# Altium schematic symbol library Schlib_Linear_Technology.SchLib: 87 symbols
Pins are listed as number, name and electrical type; pins without a type are passive.

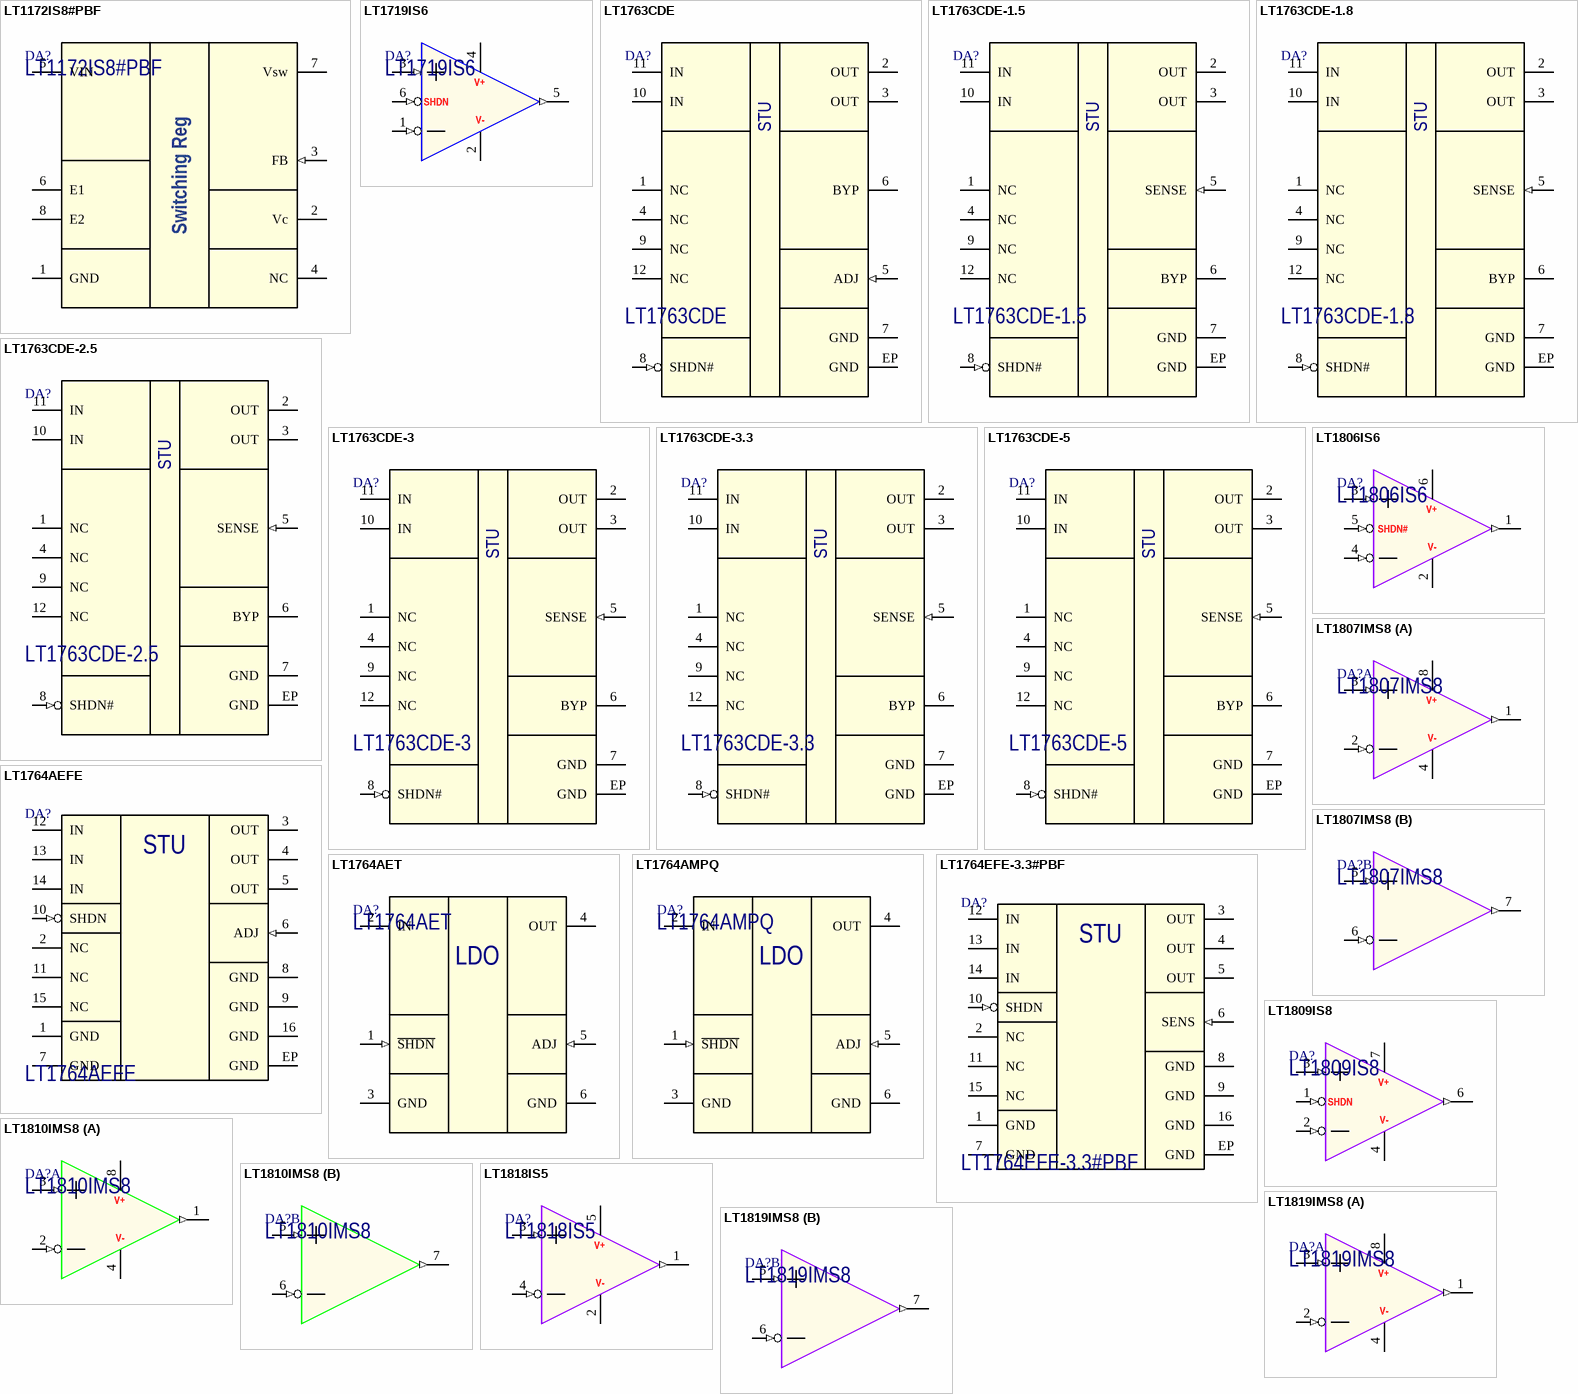
[diagram p0: symbols LT1172IS8#PBF to LT1819IMS8]

## LT1172IS8#PBF
designator DA?
100kHz, 1.25A High Efficiency Switching Regulators; Manufacturer: Analog Devices; Package: SO-8; Part Number: LT1172IS8#PBF
footprint SOIC-8 (SOIC-8 package)
pins: 1 GND (power), 2 Vc, 3 FB (in), 4 NC (hiz), 5 VIN (power), 6 E1 (power), 7 Vsw (power), 8 E2 (power)
text: Switching Reg

## LT1719IS6
designator DA?
Single Comparator with Rail-to-Rail Output; Manufacturer: Linear Technology/Analog Devices; Package: TSOT-23-6; Part Number: LT1719IS6
footprint TSOT-23-6
pins: 1 IN- (in), 2 V- (power), 3 IN+ (in), 4 V+ (power), 5 OUT (out), 6 SHDN (in)

## LT1763CDE
designator DA?
Adjustable LDO Regulator, 500mA; Manufacturer: Linear Technology/Analog Devices; Part Number: LT1763CDE; Package: DFN-12
footprint DFN-12(3x4) (DFN-12 package with 0.5mm pitch 3x4mm)
pins: 1 NC (hiz), 2 OUT (power), 3 OUT (power), 4 NC (hiz), 5 ADJ (in), 6 BYP, 7 GND (power), 8 SHDN# (in), 9 NC (hiz), 10 IN (power), 11 IN (power), 12 NC (hiz), EP GND (power)
text: STU

## LT1763CDE-1.5
designator DA?
LDO Regulator 1.5V, 500mA; Manufacturer: Linear Technology/Analog Devices; Part Number: LT1763CDE-1.5; Package: DFN-12
footprint DFN-12(3x4) (DFN-12 package with 0.5mm pitch 3x4mm)
pins: 1 NC (hiz), 2 OUT (power), 3 OUT (power), 4 NC (hiz), 5 SENSE (in), 6 BYP, 7 GND (power), 8 SHDN# (in), 9 NC (hiz), 10 IN (power), 11 IN (power), 12 NC (hiz), EP GND (power)
text: STU

## LT1763CDE-1.8
designator DA?
LDO Regulator 1.8V, 500mA; Manufacturer: Linear Technology/Analog Devices; Part Number: LT1763CDE-1.8; Package: DFN-12
footprint DFN-12(3x4) (DFN-12 package with 0.5mm pitch 3x4mm)
pins: 1 NC (hiz), 2 OUT (power), 3 OUT (power), 4 NC (hiz), 5 SENSE (in), 6 BYP, 7 GND (power), 8 SHDN# (in), 9 NC (hiz), 10 IN (power), 11 IN (power), 12 NC (hiz), EP GND (power)
text: STU

## LT1763CDE-2.5
designator DA?
LDO Regulator 2.5V, 500mA; Manufacturer: Linear Technology/Analog Devices; Part Number: LT1763CDE-2.5; Package: DFN-12
footprint DFN-12(3x4) (DFN-12 package with 0.5mm pitch 3x4mm)
pins: 1 NC (hiz), 2 OUT (power), 3 OUT (power), 4 NC (hiz), 5 SENSE (in), 6 BYP, 7 GND (power), 8 SHDN# (in), 9 NC (hiz), 10 IN (power), 11 IN (power), 12 NC (hiz), EP GND (power)
text: STU

## LT1763CDE-3
designator DA?
LDO Regulator 3V, 500mA; Manufacturer: Linear Technology/Analog Devices; Part Number: LT1763CDE-3; Package: DFN-12
footprint DFN-12(3x4) (DFN-12 package with 0.5mm pitch 3x4mm)
pins: 1 NC (hiz), 2 OUT (power), 3 OUT (power), 4 NC (hiz), 5 SENSE (in), 6 BYP, 7 GND (power), 8 SHDN# (in), 9 NC (hiz), 10 IN (power), 11 IN (power), 12 NC (hiz), EP GND (power)
text: STU

## LT1763CDE-3.3
designator DA?
LDO Regulator 3.3V, 500mA; Manufacturer: Linear Technology/Analog Devices; Part Number: LT1763CDE-3.3; Package: DFN-12
footprint DFN-12(3x4) (DFN-12 package with 0.5mm pitch 3x4mm)
pins: 1 NC (hiz), 2 OUT (power), 3 OUT (power), 4 NC (hiz), 5 SENSE (in), 6 BYP, 7 GND (power), 8 SHDN# (in), 9 NC (hiz), 10 IN (power), 11 IN (power), 12 NC (hiz), EP GND (power)
text: STU

## LT1763CDE-5
designator DA?
LDO Regulator 5V, 500mA; Manufacturer: Linear Technology/Analog Devices; Part Number: LT1763CDE-5; Package: DFN-12
footprint DFN-12(3x4) (DFN-12 package with 0.5mm pitch 3x4mm)
pins: 1 NC (hiz), 2 OUT (power), 3 OUT (power), 4 NC (hiz), 5 SENSE (in), 6 BYP, 7 GND (power), 8 SHDN# (in), 9 NC (hiz), 10 IN (power), 11 IN (power), 12 NC (hiz), EP GND (power)
text: STU

## LT1764AEFE
designator DA?
Adjustable LDO Regulator; Manufacturer: Linear Technology/Analog Devices; Part Number: LT1764AEFE; Package: TSSOP16-EP
footprint TSSOP-16EP (TSOP, 20-Leads, Body 6.50x4.40mm, Pitch 0.65mm, IPC Medium Density)
pins: 1 GND (power), 2 NC (hiz), 3 OUT (power), 4 OUT (power), 5 OUT (power), 6 ADJ (in), 7 GND (power), 8 GND (power), 9 GND (power), 10 SHDN (in), 11 NC (hiz), 12 IN (power), 13 IN (power), 14 IN (power), 15 NC (hiz), 16 GND (power), EP GND (power)
text: STU

## LT1764AET
designator DA?
Adjustable LDO Regulator; Manufacturer: Linear Technology/Analog Devices; Package: TO-220-5; Part Number: LT1764AET
footprint TO-220-5
footprint TO-220-5 (hole mounting)
pins: 1 ~{SHDN} (in), 2 IN (power), 3 GND (power), 4 OUT (power), 5 ADJ (in), 6 GND (power)
text: LDO

## LT1764AMPQ
designator DA?
Adjustable LDO Regulator; Manufacturer: Linear Technology/Analog Devices; Package: TO-263BA; Part Number: LT1764AMPQ
footprint TO-263BA (D2-PAK, 6-Pads, Body 7.80x8.61mm (max), IPC Medium Density)
pins: 1 ~{SHDN} (in), 2 IN (power), 3 GND (power), 4 OUT (power), 5 ADJ (in), 6 GND (power)
text: LDO

## LT1764EFE-3.3#PBF
designator DA?
Fixed LDO Regulator 3.3V/3A; Manufacturer: Linear Technology/Analog Devices; Part Number: LT1764EFE-3.3#PBF; Package: TSSOP16-EP
footprint TSSOP-16EP (TSOP, 20-Leads, Body 6.50x4.40mm, Pitch 0.65mm, IPC Medium Density)
pins: 1 GND (power), 2 NC (hiz), 3 OUT (power), 4 OUT (power), 5 OUT (power), 6 SENS (in), 7 GND (power), 8 GND (power), 9 GND (power), 10 SHDN (in), 11 NC (hiz), 12 IN (power), 13 IN (power), 14 IN (power), 15 NC (hiz), 16 GND (power), EP GND (power)
text: STU

## LT1806IS6
designator DA?
325MHz, Single/Dual, / Rail-to-Rail Input and Output, Low Distortion, Low Noise Precision Op Amps; Manufacturer: Linear Technology/Analog Devices; Package: TSOT23-6; Part Number: LT1806IS6
footprint TSOT23-6
pins: 1 OUT (out), 2 V- (power), 3 IN+ (in), 4 IN- (in), 5 SHDN (in), 6 V+ (power)
text: SHDN#

## LT1807IMS8
designator DA?
325MHz, Single/Dual, / Rail-to-Rail Input and Output, Low Distortion, Low Noise Precision Op Amps; Manufacturer: Linear Technology/Analog Devices; Package: MSOP-8; Part Number: LT1807IMS8
footprint MSOP-8 (TSOP, 8-Leads, Body 3.00x3.00mm, Pitch 0.65mm, IPC Medium Density)
part A pins: 1 OUTA (out), 2 INA- (in), 3 INA+ (in), 4 V- (power), 8 V+ (power)
part B pins: 5 INB+ (in), 6 INB- (in), 7 OUTB (out)

## LT1809IS8
designator DA?
Single 180MHz, 350V/µs / Rail-to-Rail Input and Output / Low Distortion Op Amps; Manufacturer: Linear Technology/Analog Devices; Package: SO-8; Part Number: LT1809IS8
footprint SOIC-8 (SOIC-8 package)
pins: 1 SHDN (in), 2 IN- (in), 3 IN+ (in), 4 V- (power), 6 OUT (out), 7 V+ (power)

## LT1810IMS8
designator DA?
Single/Dual 180MHz, 350V/µs Rail-to-Rail Input and Output Low Distortion Op Amps; Manufacturer: Linear Technology/Analog Devices; Package: MSOP-8; Part Number: LT1810IMS8
footprint MSOP-8 (TSOP, 8-Leads, Body 3.00x3.00mm, Pitch 0.65mm, IPC Medium Density)
part A pins: 1 OUTA (out), 2 INA- (in), 3 INA+ (in), 4 V- (power), 8 V+ (power)
part B pins: 5 INB+ (in), 6 INB- (in), 7 OUTB (out)

## LT1818IS5
designator DA?
400MHz, 2500V/µs, 9mA Single/Dual Operational Amplifiers; Manufacturer: Linear Technology/Analog Devices; Package: TSOT-23-5; Part Number: LT1818IS5
footprint TSOT23-5 (SOT23, 5-Leads, Body 2,90x2,80mm, Pitch 0,95mm, IPC Medium Density)
pins: 1 OUT (out), 2 V- (power), 3 IN+ (in), 4 IN- (in), 5 V+ (power)

## LT1819IMS8
designator DA?
400MHz, 2500V/µs, 9mA Single/Dual Operational Amplifiers; Manufacturer: Linear Technology/Analog Devices; Package: MSOP-8; Part Number: LT1819IMS8
footprint MSOP-8 (TSOP, 8-Leads, Body 3.00x3.00mm, Pitch 0.65mm, IPC Medium Density)
part A pins: 1 OUT (out), 2 IN- (in), 3 IN+ (in), 4 V- (power), 8 V+ (power)
part B pins: 5 IN+ (in), 6 IN- (in), 7 OUT (out)

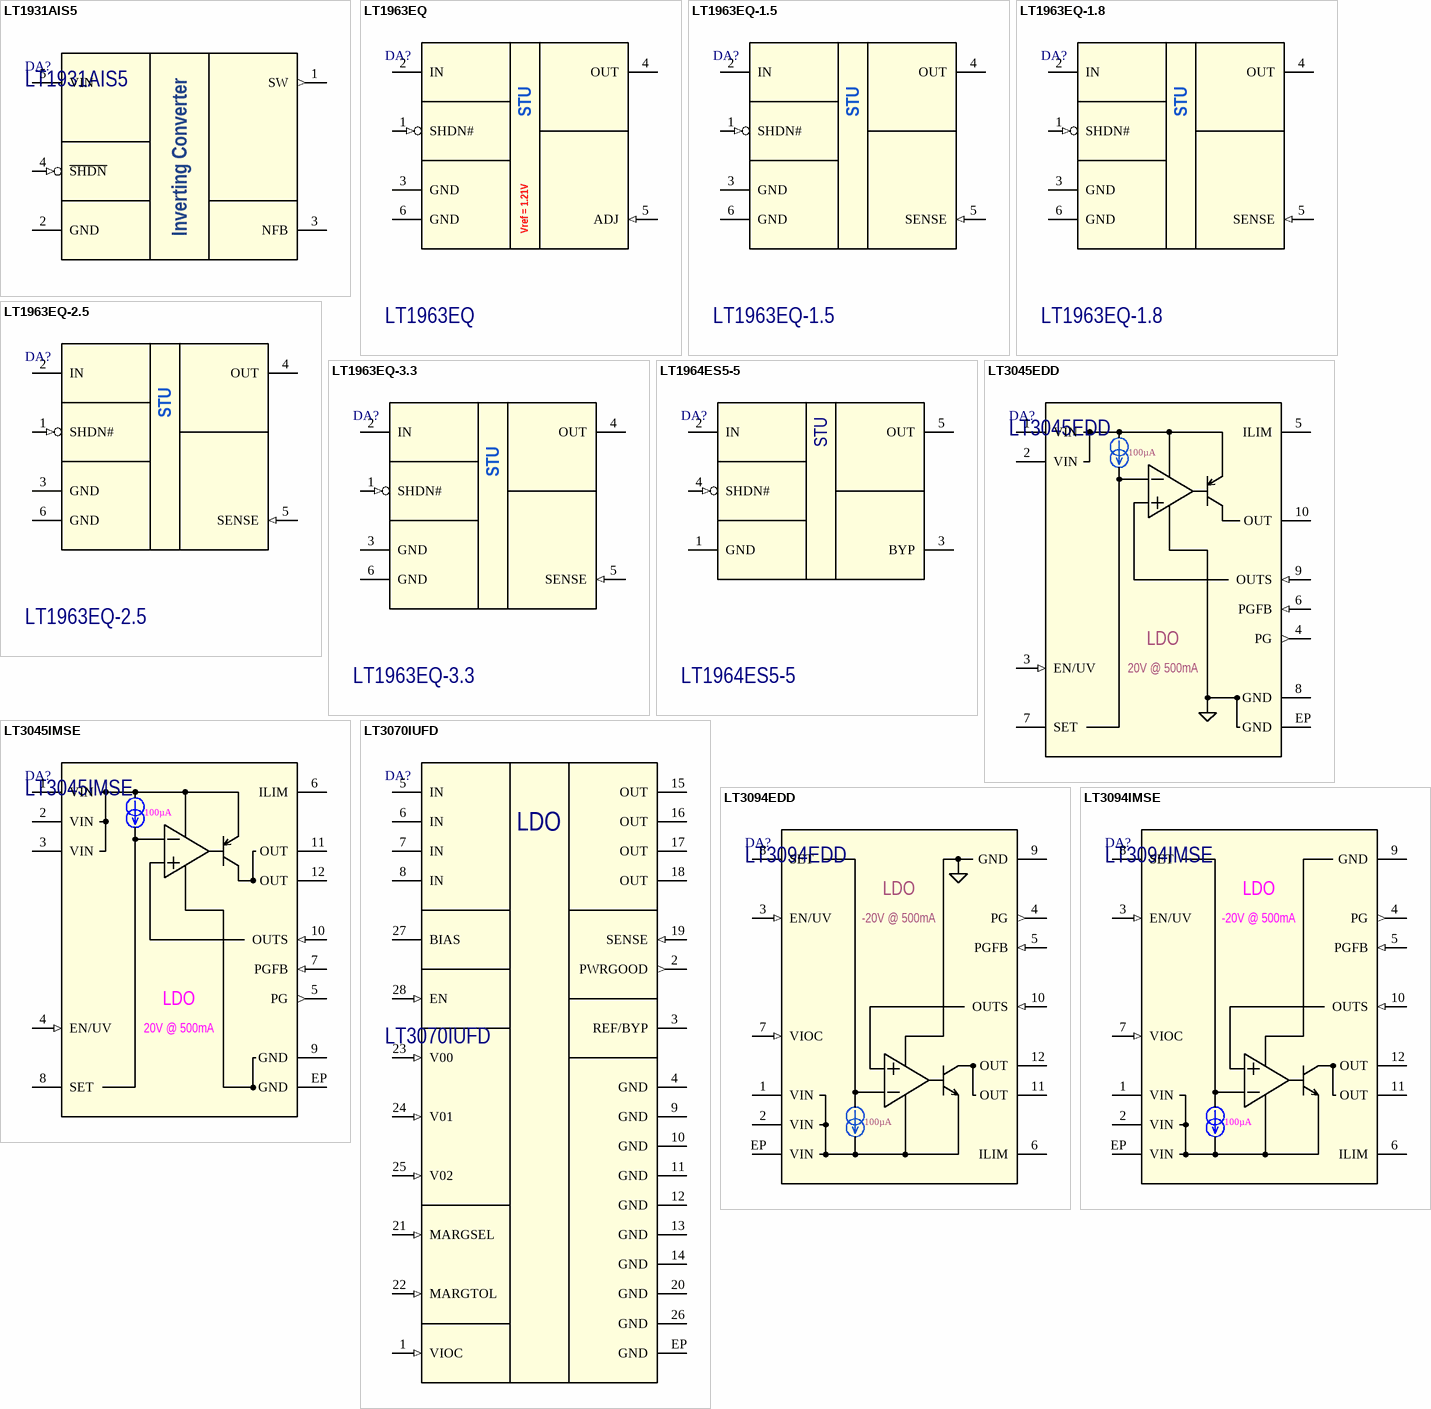
[diagram p1: symbols LT1931AIS5 to LT3094IMSE]

## LT1931AIS5
designator DA?
1.2MHz/2.2MHz Inverting DC/DC Converters; Manufacturer: Linear Technology/Analog Devices; Package: TSOT-23-5; Part Number: LT1931AIS5
footprint TSOT23-5 (SOT23, 5-Leads, Body 2,90x2,80mm, Pitch 0,95mm, IPC Medium Density)
pins: 1 SW (out), 2 GND (power), 3 NFB (power), 4 ~{SHDN} (in), 5 VIN (power)
text: Inverting Converter

## LT1963EQ
designator DA?
1.5A, Low Noise, Fast Transient Response LDO Regulator; Manufacturer: Linear Technology/Analog Devices; Part Number: LT1963EQ; Package: TO-263-5
footprint TO-263BA (D2-PAK, 6-Pads, Body 7.80x8.61mm (max), IPC Medium Density)
pins: 1 SHDN# (in), 2 IN (power), 3 GND (power), 4 OUT (power), 5 ADJ (in), 6 GND (power)
text: STU; Vref = 1.21V

## LT1963EQ-1.5
designator DA?
1.5A, Low Noise, Fast Transient Response LDO Regulator; Manufacturer: Linear Technology/Analog Devices; Part Number: LT1963EQ-1.5; Package: TO-263-5
footprint TO-263BA (D2-PAK, 6-Pads, Body 7.80x8.61mm (max), IPC Medium Density)
pins: 1 SHDN# (in), 2 IN (power), 3 GND (power), 4 OUT (power), 5 SENSE (in), 6 GND (power)
text: STU

## LT1963EQ-1.8
designator DA?
1.5A, Low Noise, Fast Transient Response LDO Regulator; Manufacturer: Linear Technology/Analog Devices; Part Number: LT1963EQ-1.8; Package: TO-263-5
footprint TO-263BA (D2-PAK, 6-Pads, Body 7.80x8.61mm (max), IPC Medium Density)
pins: 1 SHDN# (in), 2 IN (power), 3 GND (power), 4 OUT (power), 5 SENSE (in), 6 GND (power)
text: STU

## LT1963EQ-2.5
designator DA?
1.5A, Low Noise, Fast Transient Response LDO Regulator; Manufacturer: Linear Technology/Analog Devices; Part Number: LT1963EQ-2.5; Package: TO-263-5
footprint TO-263BA (D2-PAK, 6-Pads, Body 7.80x8.61mm (max), IPC Medium Density)
pins: 1 SHDN# (in), 2 IN (power), 3 GND (power), 4 OUT (power), 5 SENSE (in), 6 GND (power)
text: STU

## LT1963EQ-3.3
designator DA?
1.5A, Low Noise, Fast Transient Response LDO Regulator; Manufacturer: Linear Technology/Analog Devices; Part Number: LT1963EQ-3.3; Package: TO-263-5
footprint TO-263BA (D2-PAK, 6-Pads, Body 7.80x8.61mm (max), IPC Medium Density)
pins: 1 SHDN# (in), 2 IN (power), 3 GND (power), 4 OUT (power), 5 SENSE (in), 6 GND (power)
text: STU

## LT1964ES5-5
designator DA?
200mA, Low Noise, Low Dropout Negative Micropower Regulator; Manufacturer: Linear Technology/Analog Devices; Part Number: LT1964ES5-5; Package: SOT23-5
footprint SOT23-5 (SOT23, 6-Leads, Body 2.90x2.80mm, Pitch 0.95mm, IPC Medium Density)
pins: 1 GND (power), 2 IN (power), 3 BYP, 4 SHDN# (in), 5 OUT (power)
text: STU

## LT3045EDD
designator DA?
20V, 500mA, Ultralow Noise, Ultrahigh PSRR Linear Regulator; Manufacturer: Linear Technology/Analog Devices; Package: DFN-10; Part Number: LT3045EDD
footprint DFN10_LT (Power DFN 3mm x 3mm, 0.5mm pitch)
pins: 1 VIN (power), 2 VIN (power), 3 EN/UV (in), 4 PG (out), 5 ILIM, 6 PGFB (in), 7 SET, 8 GND (power), 9 OUTS (in), 10 OUT (power), EP GND (power)
text: 100µA; LDO; 20V @ 500mA

## LT3045IMSE
designator DA?
20V, 500mA, Ultralow Noise, Ultrahigh PSRR Linear Regulator; Manufacturer: Linear Technology/Analog Devices; Package: MSOP-12; Part Number: LT3045IMSE
footprint MSOP-12EP (MSOP, 12-Leads, Body 3.00x4.00mm, Pitch 0.65mm)
pins: 1 VIN (power), 2 VIN (power), 3 VIN (power), 4 EN/UV (in), 5 PG (out), 6 ILIM, 7 PGFB (in), 8 SET, 9 GND (power), 10 OUTS (in), 11 OUT (power), 12 OUT (power), EP GND (power)
text: 100µA; LDO; 20V @ 500mA

## LT3070IUFD
designator DA?
5A, Low Noise, Programmable Output, 85mV Dropout Linear Regulator; Manufacturer: Linear Technology/Analog Devices; Part Number: LT3070IUFD; Package: QFN-28 (4x5mm)
footprint QFN28(LINEAR) (QFN-28 package 4x5 mm from Linear Technology devices)
pins: 1 VIOC (in), 2 PWRGOOD (out), 3 REF/BYP (power), 4 GND (power), 5 IN (power), 6 IN (power), 7 IN (power), 8 IN (power), 9 GND (power), 10 GND (power), 11 GND (power), 12 GND (power), 13 GND (power), 14 GND (power), 15 OUT (power), 16 OUT (power), 17 OUT (power), 18 OUT (power), 19 SENSE (in), 20 GND (power), 21 MARGSEL (in), 22 MARGTOL (in), 23 V00 (in), 24 V01 (in), 25 V02 (in), 26 GND (power), 27 BIAS (power), 28 EN (in), EP GND (power)
text: LDO

## LT3094EDD
designator DA?
–20V, 500mA, Ultralow Noise, Ultrahigh PSRR Negative Linear Regulator; Manufacturer: Linear Technology/Analog Devices; Package: DFN-12; Part Number: LT3094EDD
footprint DFN12_LT (Power DFN 3mm x 3mm, 0.45mm pitch)
pins: 1 VIN (power), 2 VIN (power), 3 EN/UV (in), 4 PG (out), 5 PGFB (in), 6 ILIM, 7 VIOC (in), 8 SET, 9 GND (power), 10 OUTS (in), 11 OUT (power), 12 OUT (power), EP VIN (power)
text: LDO; -20V @ 500mA; 100µA

## LT3094IMSE
designator DA?
–20V, 500mA, Ultralow Noise, Ultrahigh PSRR Negative Linear Regulator; Manufacturer: Linear Technology/Analog Devices; Package: MSOP-12; Part Number: LT3094IMSE
footprint MSOP-12EP (MSOP, 12-Leads, Body 3.00x4.00mm, Pitch 0.65mm)
pins: 1 VIN (power), 2 VIN (power), 3 EN/UV (in), 4 PG (out), 5 PGFB (in), 6 ILIM, 7 VIOC (in), 8 SET, 9 GND (power), 10 OUTS (in), 11 OUT (power), 12 OUT (power), EP VIN (power)
text: LDO; -20V @ 500mA; 100µA

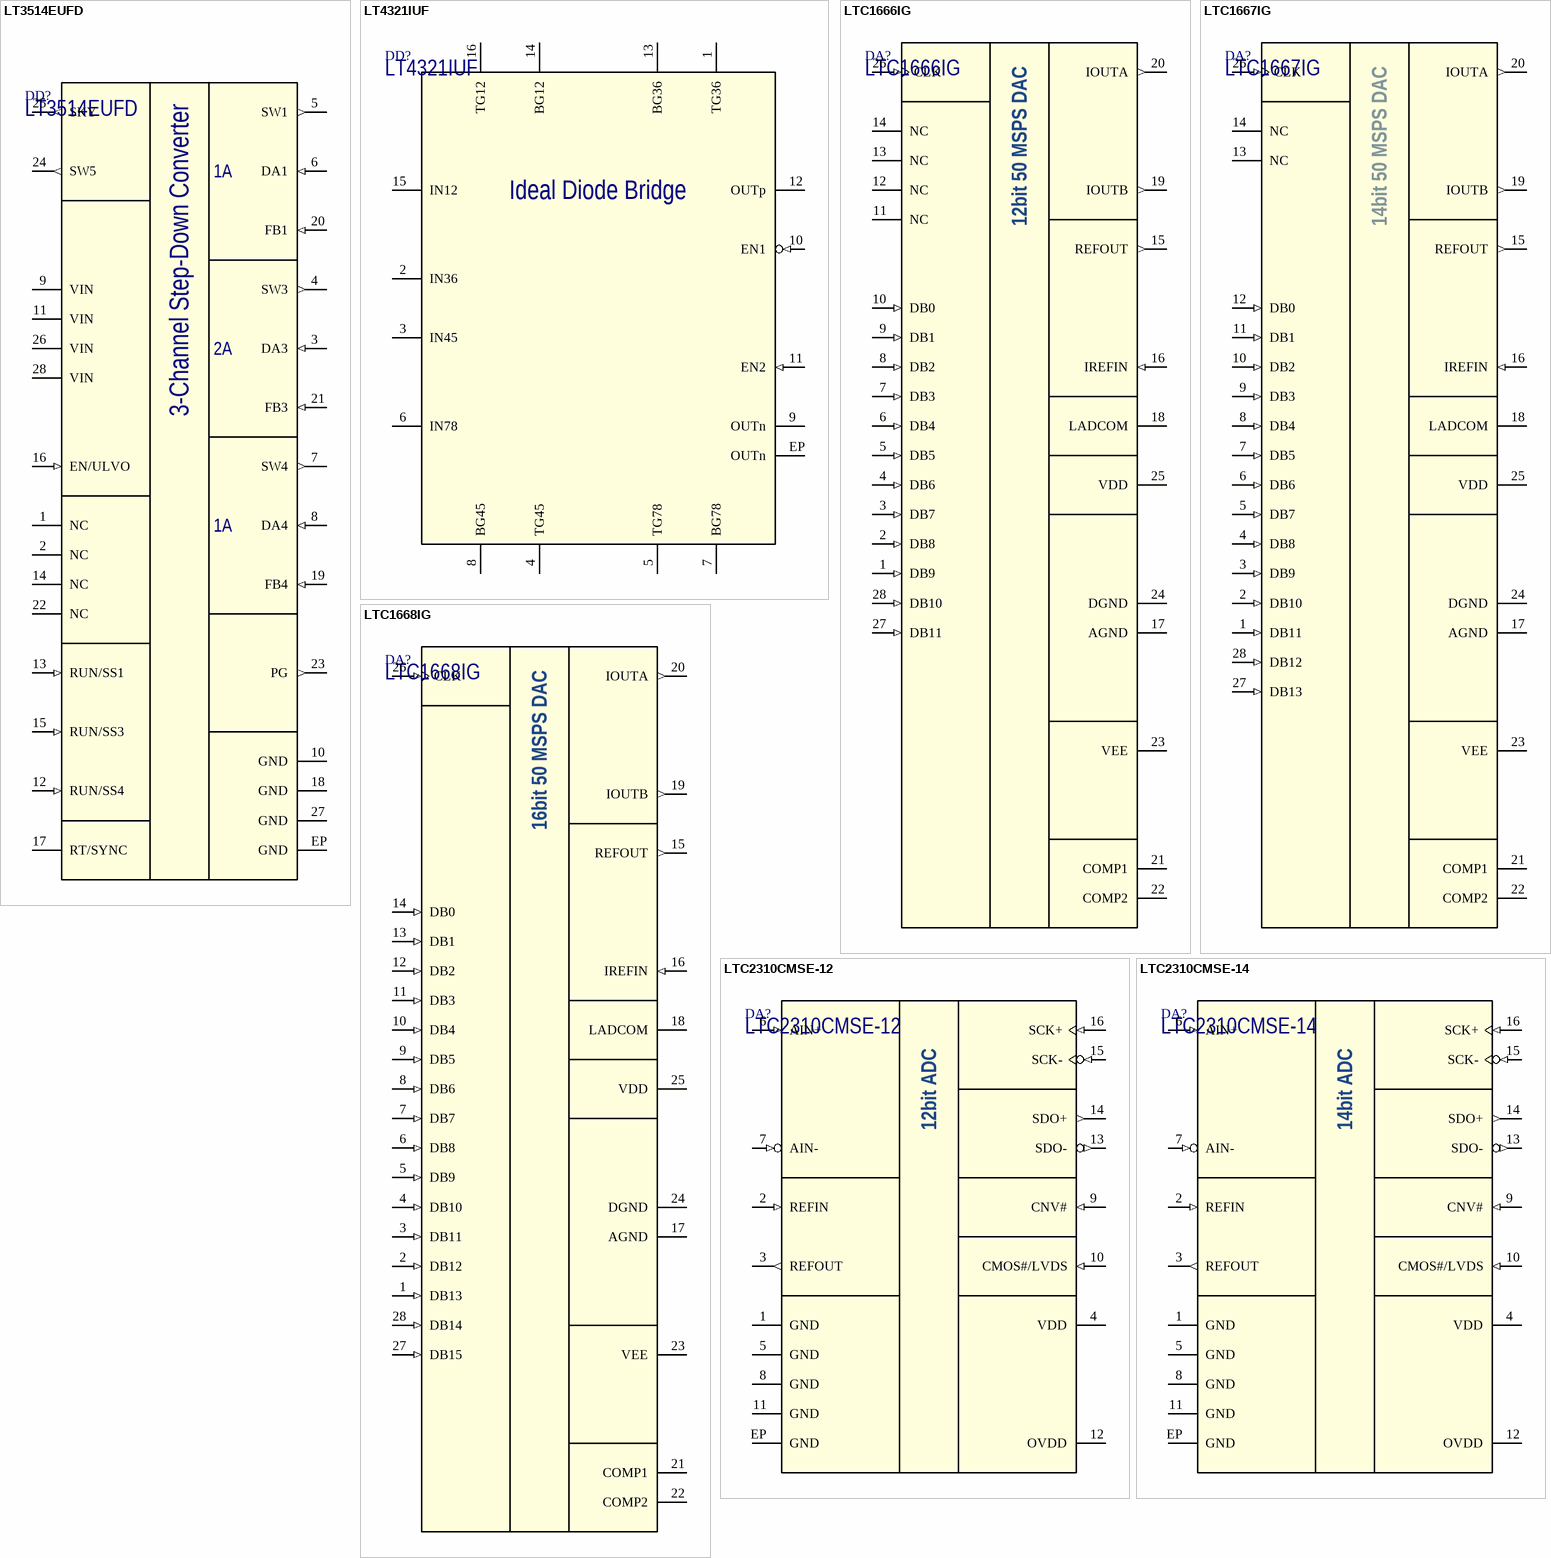
[diagram p2: symbols LT3514EUFD to LTC2310CMSE-14]

## LT3514EUFD
designator DD?
Triple Step-Down Switching Regulator with 100% Duty Cycle Operation; Manufacturer: Linear Technology/Analog Devices; Package: QFN-28; Part Number: LT3514EUFD
footprint QFN28_LT3514 (QFN-28 package 4x5 mm from Linear Technology devices)
pins: 1 NC (hiz), 2 NC (hiz), 3 DA3 (in), 4 SW3 (out), 5 SW1 (out), 6 DA1 (in), 7 SW4 (out), 8 DA4 (in), 9 VIN (power), 10 GND (power), 11 VIN (power), 12 RUN/SS4 (in), 13 RUN/SS1 (in), 14 NC (hiz), 15 RUN/SS3 (in), 16 EN/ULVO (in), 17 RT/SYNC, 18 GND (power), 19 FB4 (in), 20 FB1 (in), 21 FB3 (in), 22 NC (hiz), 23 PG (out), 24 SW5 (out), 25 SKY (out), 26 VIN (power), 27 GND (power), 28 VIN (power), EP GND (power)
text: 1A; 3-Channel Step-Down Converter; 2A

## LT4321IUF
designator DD?
PoE Ideal Diode Bridge Controller; Manufacturer: Linear Technology/Analog Devices; Package: QFN-16 (4 x 4 mm); Part Number: LT4321IUF
footprint QFN16
pins: 1 TG36 (power), 2 IN36 (power), 3 IN45 (power), 4 TG45 (power), 5 TG78 (power), 6 IN78 (power), 7 BG78 (power), 8 BG45 (power), 9 OUTn (power), 10 EN1 (in), 11 EN2 (in), 12 OUTp (power), 13 BG36 (power), 14 BG12 (power), 15 IN12 (power), 16 TG12 (power), EP OUTn (power)
text: Ideal Diode Bridge

## LTC1666IG
designator DA?
12-Bit 50Msps DACs; Manufacturer: Linear Technology/Analog Devices; Package: SSOP-28; Part Number: LTC1666IG
footprint SSOP-28 (SSOP, 28-Leads, Body 10,20x5,30mm, Pitch 0,65mm, IPC Medium Density)
pins: 1 DB9 (in), 2 DB8 (in), 3 DB7 (in), 4 DB6 (in), 5 DB5 (in), 6 DB4 (in), 7 DB3 (in), 8 DB2 (in), 9 DB1 (in), 10 DB0 (in), 11 NC (hiz), 12 NC (hiz), 13 NC (hiz), 14 NC (hiz), 15 REFOUT (out), 16 IREFIN (in), 17 AGND (power), 18 LADCOM, 19 IOUTB (out), 20 IOUTA (out), 21 COMP1, 22 COMP2, 23 VEE (power), 24 DGND (power), 25 VDD (power), 26 CLK (in), 27 DB11 (in), 28 DB10 (in)
text: 12bit 50 MSPS DAC

## LTC1667IG
designator DA?
14-Bit 50Msps DACs; Manufacturer: Linear Technology/Analog Devices; Package: SSOP-28; Part Number: LTC1667IG
footprint SSOP-28 (SSOP, 28-Leads, Body 10,20x5,30mm, Pitch 0,65mm, IPC Medium Density)
pins: 1 DB11 (in), 2 DB10 (in), 3 DB9 (in), 4 DB8 (in), 5 DB7 (in), 6 DB6 (in), 7 DB5 (in), 8 DB4 (in), 9 DB3 (in), 10 DB2 (in), 11 DB1 (in), 12 DB0 (in), 13 NC (hiz), 14 NC (hiz), 15 REFOUT (out), 16 IREFIN (in), 17 AGND (power), 18 LADCOM, 19 IOUTB (out), 20 IOUTA (out), 21 COMP1, 22 COMP2, 23 VEE (power), 24 DGND (power), 25 VDD (power), 26 CLK (in), 27 DB13 (in), 28 DB12 (in)
text: 14bit 50 MSPS DAC

## LTC1668IG
designator DA?
16-Bit 50Msps DACs; Manufacturer: Linear Technology/Analog Devices; Package: SSOP-28; Part Number: LTC1668IG
footprint SSOP-28 (SSOP, 28-Leads, Body 10,20x5,30mm, Pitch 0,65mm, IPC Medium Density)
pins: 1 DB13 (in), 2 DB12 (in), 3 DB11 (in), 4 DB10 (in), 5 DB9 (in), 6 DB8 (in), 7 DB7 (in), 8 DB6 (in), 9 DB5 (in), 10 DB4 (in), 11 DB3 (in), 12 DB2 (in), 13 DB1 (in), 14 DB0 (in), 15 REFOUT (out), 16 IREFIN (in), 17 AGND (power), 18 LADCOM, 19 IOUTB (out), 20 IOUTA (out), 21 COMP1, 22 COMP2, 23 VEE (power), 24 DGND (power), 25 VDD (power), 26 CLK (in), 27 DB15 (in), 28 DB14 (in)
text: 16bit 50 MSPS DAC

## LTC2310CMSE-12
designator DA?
12-Bit ADC 2Msps; Manufacturer: Linear Technology/Analog Devices; Package: MSOP-16EP; Part Number: LTC2310CMSE-12
footprint MSOP-16EP (MSOP, 16-Leads, Body 4,04x3,00mm, Pitch 0,50mm, IPC Medium Density)
pins: 1 GND (power), 2 REFIN (in), 3 REFOUT (out), 4 VDD (power), 5 GND (power), 6 AIN+ (in), 7 AIN- (in), 8 GND (power), 9 CNV# (in), 10 CMOS#/LVDS (in), 11 GND (power), 12 OVDD (power), 13 SDO- (out), 14 SDO+ (out), 15 SCK- (in), 16 SCK+ (in), EP GND (power)
text: 12bit ADC

## LTC2310CMSE-14
designator DA?
14-Bit ADC 2Msps; Manufacturer: Linear Technology/Analog Devices; Package: MSOP-16EP; Part Number: LTC2310CMSE-14
footprint MSOP-16EP (MSOP, 16-Leads, Body 4,04x3,00mm, Pitch 0,50mm, IPC Medium Density)
pins: 1 GND (power), 2 REFIN (in), 3 REFOUT (out), 4 VDD (power), 5 GND (power), 6 AIN+ (in), 7 AIN- (in), 8 GND (power), 9 CNV# (in), 10 CMOS#/LVDS (in), 11 GND (power), 12 OVDD (power), 13 SDO- (out), 14 SDO+ (out), 15 SCK- (in), 16 SCK+ (in), EP GND (power)
text: 14bit ADC

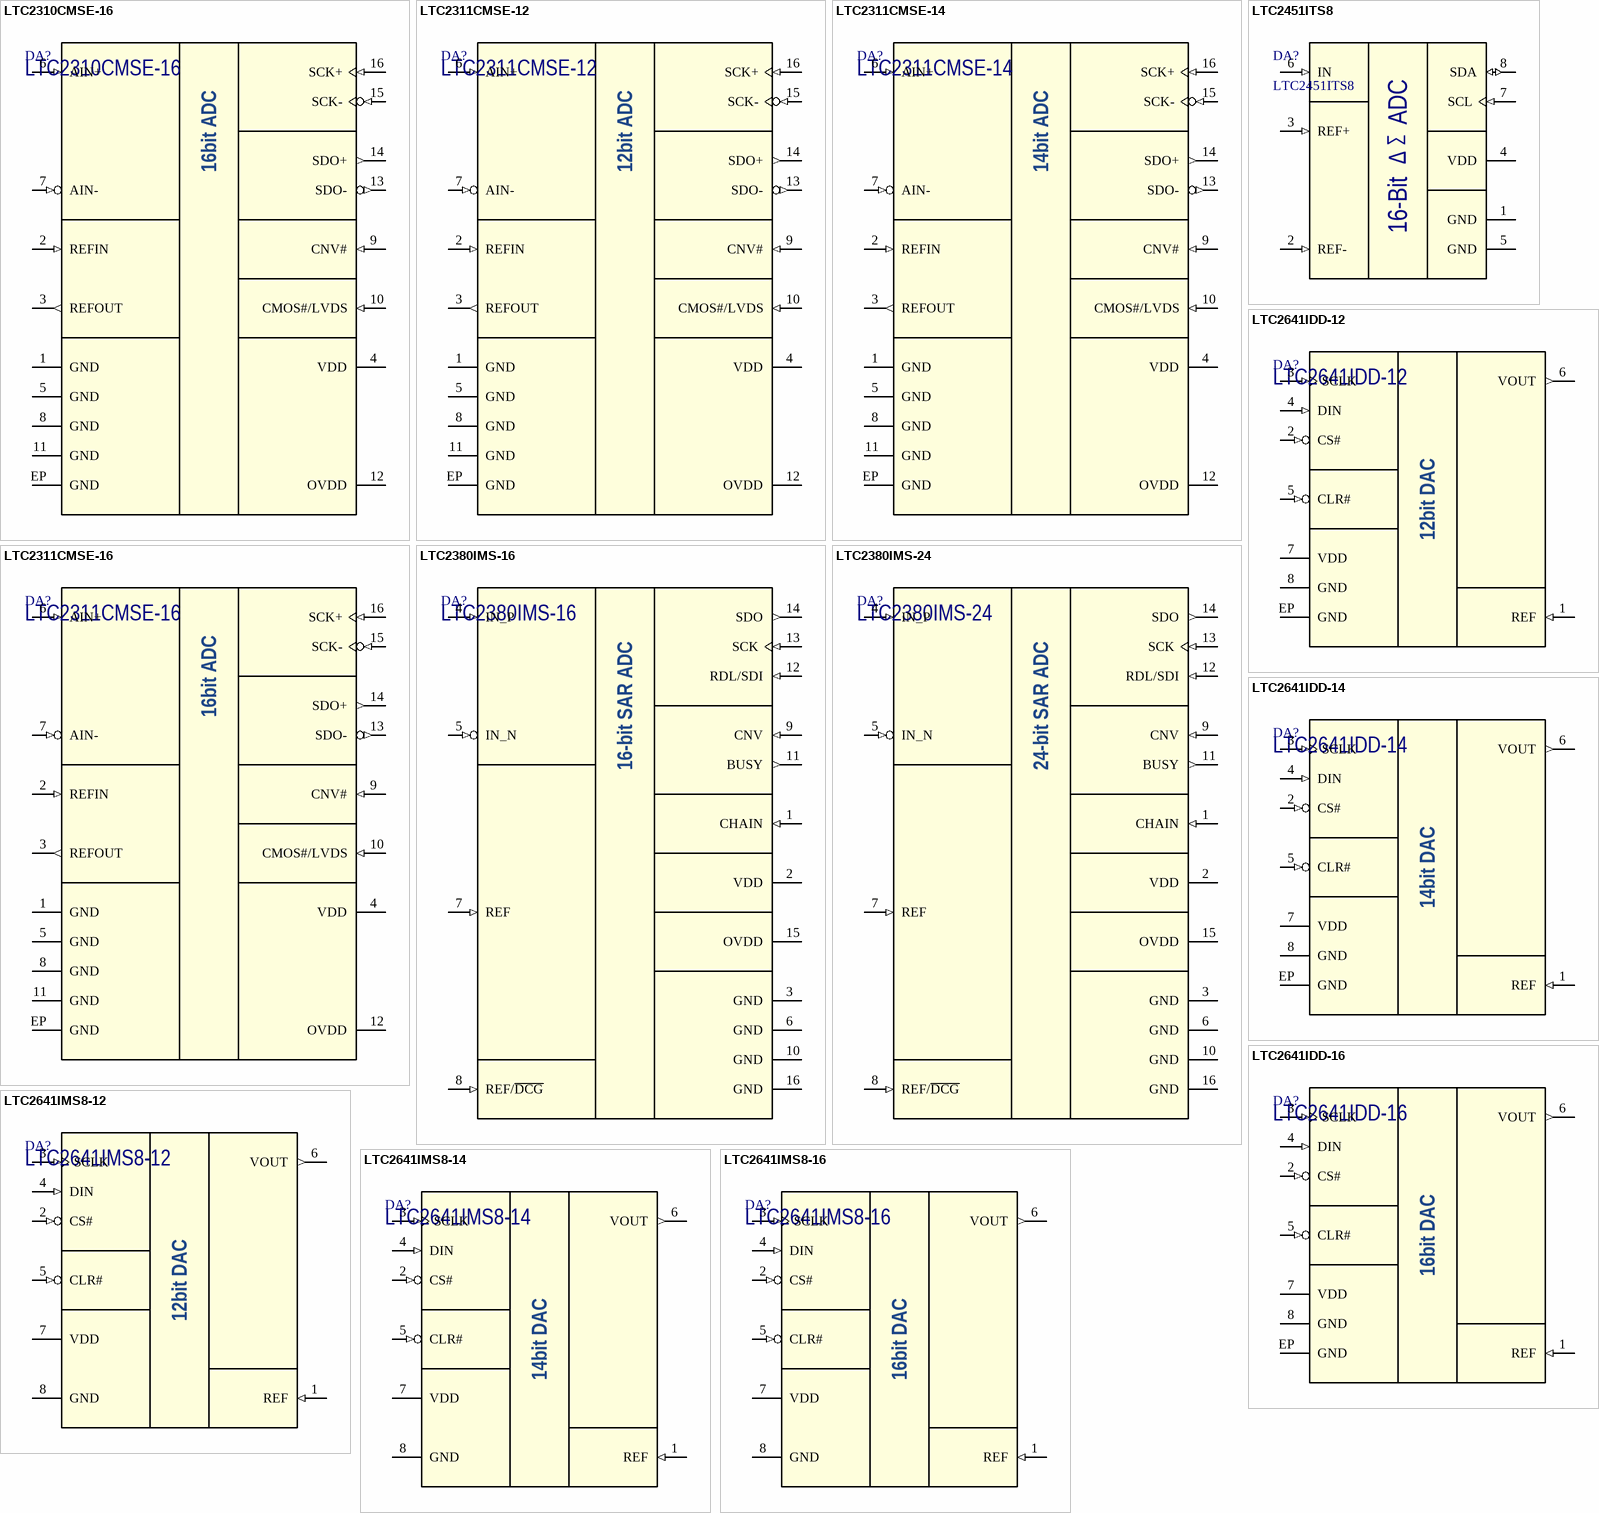
[diagram p3: symbols LTC2310CMSE-16 to LTC2641IMS8-16]

## LTC2310CMSE-16
designator DA?
16-Bit ADC 2Msps; Manufacturer: Linear Technology/Analog Devices; Package: MSOP-16EP; Part Number: LTC2310CMSE-16
footprint MSOP-16EP (MSOP, 16-Leads, Body 4,04x3,00mm, Pitch 0,50mm, IPC Medium Density)
pins: 1 GND (power), 2 REFIN (in), 3 REFOUT (out), 4 VDD (power), 5 GND (power), 6 AIN+ (in), 7 AIN- (in), 8 GND (power), 9 CNV# (in), 10 CMOS#/LVDS (in), 11 GND (power), 12 OVDD (power), 13 SDO- (out), 14 SDO+ (out), 15 SCK- (in), 16 SCK+ (in), EP GND (power)
text: 16bit ADC

## LTC2311CMSE-12
designator DA?
12-Bit ADC 5Msps; Manufacturer: Linear Technology/Analog Devices; Package: MSOP-16EP; Part Number: LTC2311CMSE-12
footprint MSOP-16EP (MSOP, 16-Leads, Body 4,04x3,00mm, Pitch 0,50mm, IPC Medium Density)
pins: 1 GND (power), 2 REFIN (in), 3 REFOUT (out), 4 VDD (power), 5 GND (power), 6 AIN+ (in), 7 AIN- (in), 8 GND (power), 9 CNV# (in), 10 CMOS#/LVDS (in), 11 GND (power), 12 OVDD (power), 13 SDO- (out), 14 SDO+ (out), 15 SCK- (in), 16 SCK+ (in), EP GND (power)
text: 12bit ADC

## LTC2311CMSE-14
designator DA?
14-Bit ADC 5Msps; Manufacturer: Linear Technology/Analog Devices; Package: MSOP-16EP; Part Number: LTC2311CMSE-14
footprint MSOP-16EP (MSOP, 16-Leads, Body 4,04x3,00mm, Pitch 0,50mm, IPC Medium Density)
pins: 1 GND (power), 2 REFIN (in), 3 REFOUT (out), 4 VDD (power), 5 GND (power), 6 AIN+ (in), 7 AIN- (in), 8 GND (power), 9 CNV# (in), 10 CMOS#/LVDS (in), 11 GND (power), 12 OVDD (power), 13 SDO- (out), 14 SDO+ (out), 15 SCK- (in), 16 SCK+ (in), EP GND (power)
text: 14bit ADC

## LTC2311CMSE-16
designator DA?
16-Bit ADC 5Msps; Manufacturer: Linear Technology/Analog Devices; Package: MSOP-16EP; Part Number: LTC2311CMSE-16
footprint MSOP-16EP (MSOP, 16-Leads, Body 4,04x3,00mm, Pitch 0,50mm, IPC Medium Density)
pins: 1 GND (power), 2 REFIN (in), 3 REFOUT (out), 4 VDD (power), 5 GND (power), 6 AIN+ (in), 7 AIN- (in), 8 GND (power), 9 CNV# (in), 10 CMOS#/LVDS (in), 11 GND (power), 12 OVDD (power), 13 SDO- (out), 14 SDO+ (out), 15 SCK- (in), 16 SCK+ (in), EP GND (power)
text: 16bit ADC

## LTC2380IMS-16
designator DA?
16-Bit, 2Msps, / Low Power SAR ADC with / Integrated Digital Filter; Manufacturer: Linear Technology/Analog Devices; Package: MSOP-16; Part Number: LTC2380IMS-16
footprint MSOP-16 (MSOP, 16-Leads, Body 4,04x3,00mm, Pitch 0,50mm, IPC Medium Density)
pins: 1 CHAIN (in), 2 VDD (power), 3 GND (power), 4 IN_P (in), 5 IN_N (in), 6 GND (power), 7 REF (in), 8 REF/~{DCG} (in), 9 CNV (in), 10 GND (power), 11 BUSY (out), 12 RDL/SDI (in), 13 SCK (in), 14 SDO (out), 15 OVDD (power), 16 GND (power)
text: 16-bit SAR ADC

## LTC2380IMS-24
designator DA?
24-Bit, 1.5Msps/2Msps, / Low Power SAR ADC with / Integrated Digital Filter; Manufacturer: Linear Technology/Analog Devices; Package: MSOP-16; Part Number: LTC2380IMS-24
footprint MSOP-16 (MSOP, 16-Leads, Body 4,04x3,00mm, Pitch 0,50mm, IPC Medium Density)
pins: 1 CHAIN (in), 2 VDD (power), 3 GND (power), 4 IN_P (in), 5 IN_N (in), 6 GND (power), 7 REF (in), 8 REF/~{DCG} (in), 9 CNV (in), 10 GND (power), 11 BUSY (out), 12 RDL/SDI (in), 13 SCK (in), 14 SDO (out), 15 OVDD (power), 16 GND (power)
text: 24-bit SAR ADC

## LTC2451ITS8
designator DA?
16-Bit ∆∑ ADC with I2C Interface; Manufacturer: Linear Technology/Analog Devices; Package: SOT23-8; Part Number: LTC2451ITS8
footprint SOT23-8 (SOT23-8, 8-Leads, Body 2,90x1,63mm, Pitch 0,65mm, IPC Medium Density)
pins: 1 GND (power), 2 REF- (in), 3 REF+ (in), 4 VDD (power), 5 GND (power), 6 IN (in), 7 SCL (in), 8 SDA (io)
text: ADC; ∑; ∆; 16-Bit

## LTC2641IDD-12
designator DA?
12-Bit DAC; Manufacturer: Linear Technology/Analog Devices; Package: DFN-8(3x3); Part Number: LTC2641IDD-12
footprint DFN-8(3x3mm)
pins: 1 REF (in), 2 CS# (in), 3 SCLK (in), 4 DIN (in), 5 CLR# (in), 6 VOUT (out), 7 VDD (power), 8 GND (power), EP GND (power)
text: 12bit DAC

## LTC2641IDD-14
designator DA?
14-Bit DAC; Manufacturer: Linear Technology/Analog Devices; Package: DFN-8(3x3); Part Number: LTC2641IDD-14
footprint DFN-8(3x3mm)
pins: 1 REF (in), 2 CS# (in), 3 SCLK (in), 4 DIN (in), 5 CLR# (in), 6 VOUT (out), 7 VDD (power), 8 GND (power), EP GND (power)
text: 14bit DAC

## LTC2641IDD-16
designator DA?
16-Bit DAC; Manufacturer: Linear Technology/Analog Devices; Package: DFN-8(3x3); Part Number: LTC2641IDD-16
footprint DFN-8(3x3mm)
pins: 1 REF (in), 2 CS# (in), 3 SCLK (in), 4 DIN (in), 5 CLR# (in), 6 VOUT (out), 7 VDD (power), 8 GND (power), EP GND (power)
text: 16bit DAC

## LTC2641IMS8-12
designator DA?
12-Bit DAC; Manufacturer: Linear Technology/Analog Devices; Package: MSOP-8; Part Number: LTC2641IMS8-12
footprint MSOP-8 (TSOP, 8-Leads, Body 3.00x3.00mm, Pitch 0.65mm, IPC Medium Density)
pins: 1 REF (in), 2 CS# (in), 3 SCLK (in), 4 DIN (in), 5 CLR# (in), 6 VOUT (out), 7 VDD (power), 8 GND (power)
text: 12bit DAC

## LTC2641IMS8-14
designator DA?
14-Bit DAC; Manufacturer: Linear Technology/Analog Devices; Package: MSOP-8; Part Number: LTC2641IMS8-14
footprint MSOP-8 (TSOP, 8-Leads, Body 3.00x3.00mm, Pitch 0.65mm, IPC Medium Density)
pins: 1 REF (in), 2 CS# (in), 3 SCLK (in), 4 DIN (in), 5 CLR# (in), 6 VOUT (out), 7 VDD (power), 8 GND (power)
text: 14bit DAC

## LTC2641IMS8-16
designator DA?
16-Bit DAC; Manufacturer: Linear Technology/Analog Devices; Package: MSOP-8; Part Number: LTC2641IMS8-16
footprint MSOP-8 (TSOP, 8-Leads, Body 3.00x3.00mm, Pitch 0.65mm, IPC Medium Density)
pins: 1 REF (in), 2 CS# (in), 3 SCLK (in), 4 DIN (in), 5 CLR# (in), 6 VOUT (out), 7 VDD (power), 8 GND (power)
text: 16bit DAC

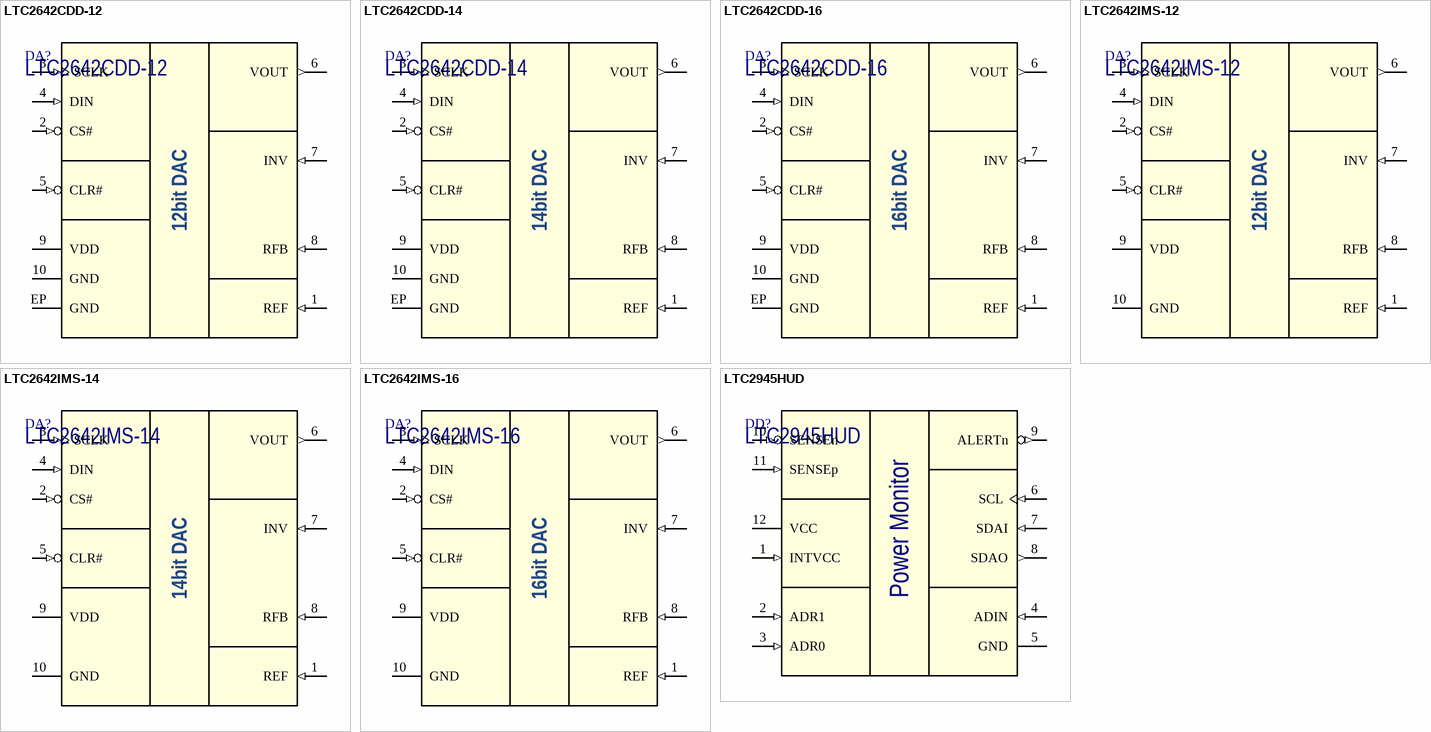
[diagram p4: symbols LTC2642CDD-12 to LTC2945HUD]

## LTC2642CDD-12
designator DA?
12-Bit DAC; Manufacturer: Linear Technology/Analog Devices; Package: DFN-10; Part Number: LTC2642CDD-12
footprint DFN-10 (DFN-10 package with 0.5mm pitch)
pins: 1 REF (in), 2 CS# (in), 3 SCLK (in), 4 DIN (in), 5 CLR# (in), 6 VOUT (out), 7 INV (in), 8 RFB (in), 9 VDD (power), 10 GND (power), EP GND (power)
text: 12bit DAC

## LTC2642CDD-14
designator DA?
14-Bit DAC; Manufacturer: Linear Technology/Analog Devices; Package: DFN-10; Part Number: LTC2642CDD-14
footprint DFN-10 (DFN-10 package with 0.5mm pitch)
pins: 1 REF (in), 2 CS# (in), 3 SCLK (in), 4 DIN (in), 5 CLR# (in), 6 VOUT (out), 7 INV (in), 8 RFB (in), 9 VDD (power), 10 GND (power), EP GND (power)
text: 14bit DAC

## LTC2642CDD-16
designator DA?
16-Bit DAC; Manufacturer: Linear Technology/Analog Devices; Package: DFN-10; Part Number: LTC2642CDD-16
footprint DFN-10 (DFN-10 package with 0.5mm pitch)
pins: 1 REF (in), 2 CS# (in), 3 SCLK (in), 4 DIN (in), 5 CLR# (in), 6 VOUT (out), 7 INV (in), 8 RFB (in), 9 VDD (power), 10 GND (power), EP GND (power)
text: 16bit DAC

## LTC2642IMS-12
designator DA?
12-Bit DAC; Manufacturer: Linear Technology/Analog Devices; Package: MSOP-10; Part Number: LTC2642IMS-12
footprint MSOP-10 (TSOP, 8-Leads, Body 3.00x3.00mm, Pitch 0.65mm, IPC Medium Density)
pins: 1 REF (in), 2 CS# (in), 3 SCLK (in), 4 DIN (in), 5 CLR# (in), 6 VOUT (out), 7 INV (in), 8 RFB (in), 9 VDD (power), 10 GND (power)
text: 12bit DAC

## LTC2642IMS-14
designator DA?
14-Bit DAC; Manufacturer: Linear Technology/Analog Devices; Package: MSOP-10; Part Number: LTC2642IMS-14
footprint MSOP-10 (TSOP, 8-Leads, Body 3.00x3.00mm, Pitch 0.65mm, IPC Medium Density)
pins: 1 REF (in), 2 CS# (in), 3 SCLK (in), 4 DIN (in), 5 CLR# (in), 6 VOUT (out), 7 INV (in), 8 RFB (in), 9 VDD (power), 10 GND (power)
text: 14bit DAC

## LTC2642IMS-16
designator DA?
16-Bit DAC; Manufacturer: Linear Technology/Analog Devices; Package: MSOP-10; Part Number: LTC2642IMS-16
footprint MSOP-10 (TSOP, 8-Leads, Body 3.00x3.00mm, Pitch 0.65mm, IPC Medium Density)
pins: 1 REF (in), 2 CS# (in), 3 SCLK (in), 4 DIN (in), 5 CLR# (in), 6 VOUT (out), 7 INV (in), 8 RFB (in), 9 VDD (power), 10 GND (power)
text: 16bit DAC

## LTC2945HUD
designator DD?
Power Monitor; Manufacturer: Linear Technology/Analog Devices; Package: QFN12; Part Number: LTC2945HUD
footprint QFN12 (QFN, 12-Leads, Body 3.00x3.00mm, Pitch 0.50mm, Thermal Pad 1.30x1.30mm, IPC Medium Density)
pins: 1 INTVCC (in), 2 ADR1 (in), 3 ADR0 (in), 4 ADIN (in), 5 GND (power), 6 SCL (in), 7 SDAI (in), 8 SDAO (out), 9 ALERTn (out), 10 SENSEn (in), 11 SENSEp (in), 12 VCC (power)

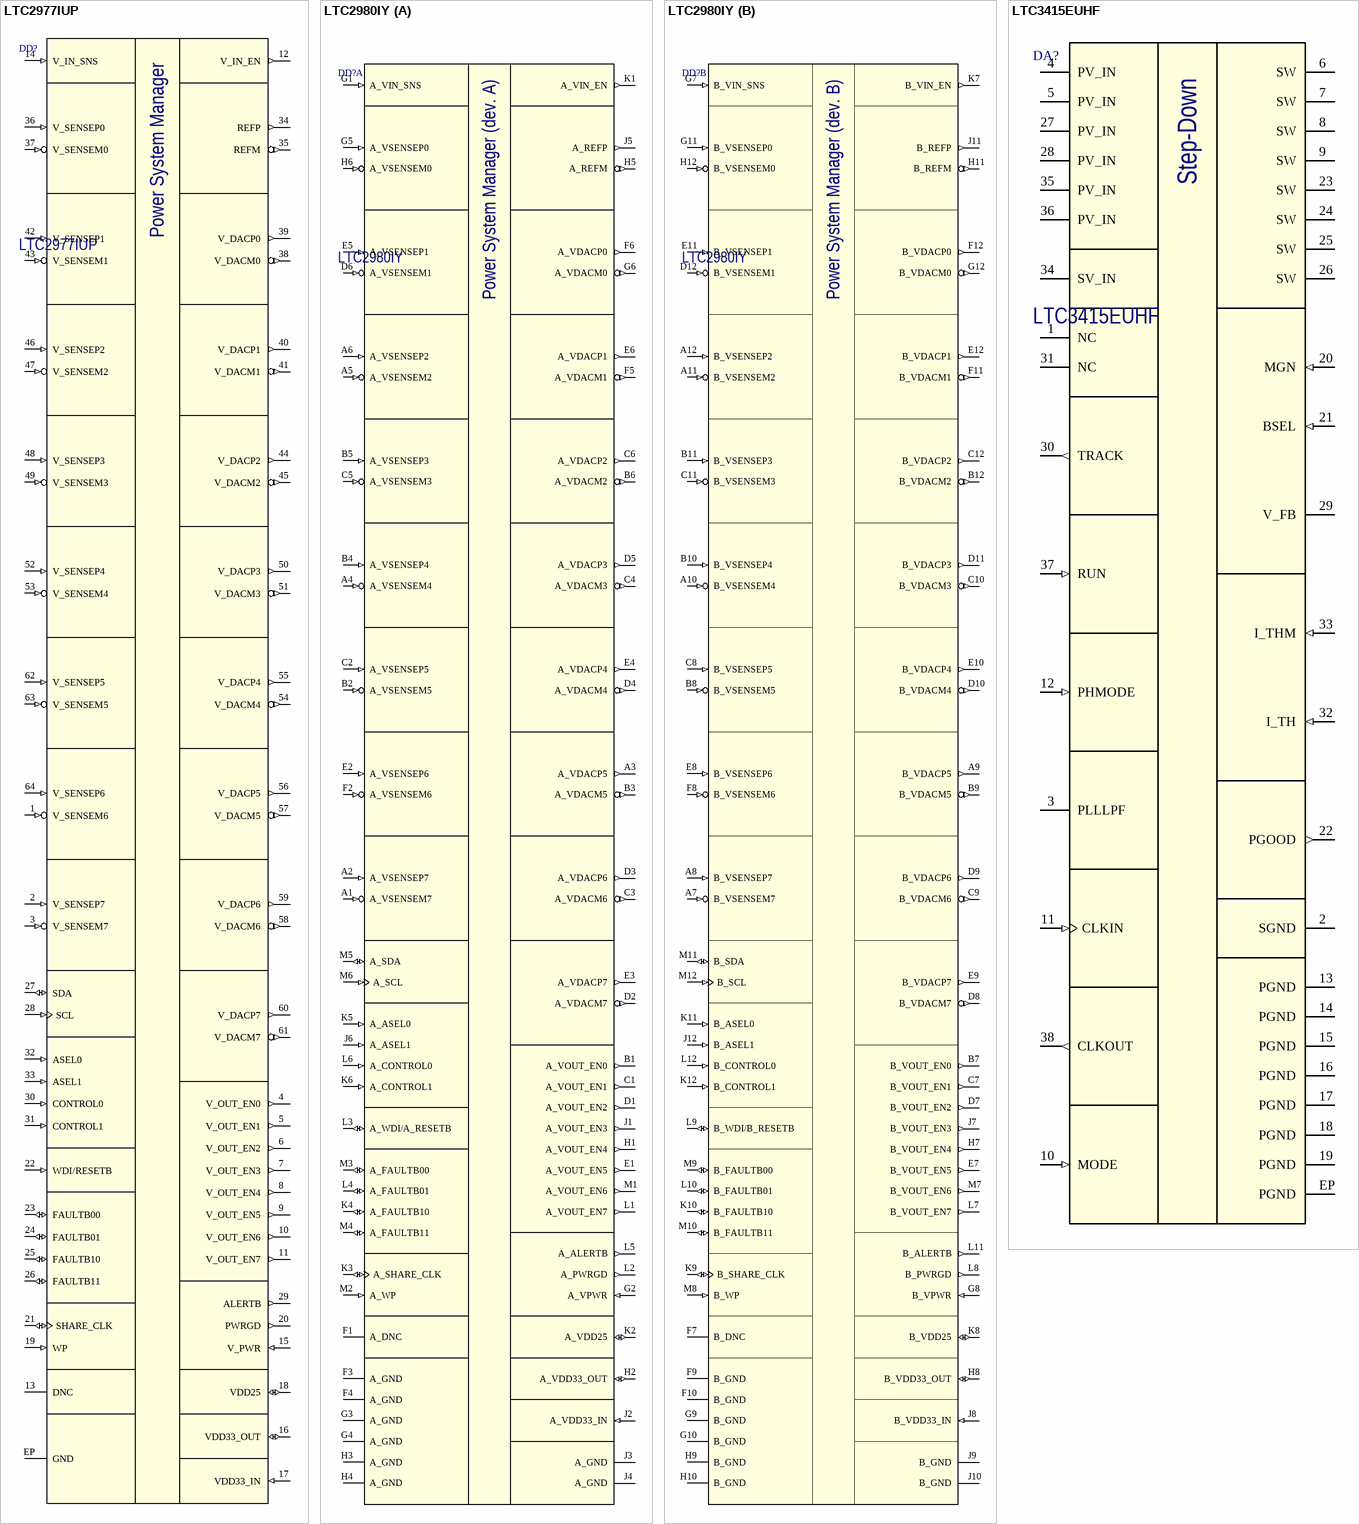
[diagram p5: symbols LTC2977IUP to LTC3415EUHF]

## LTC2977IUP
designator DD?
8-Channel PMBus Power System Manager Featuring Accurate Output Voltage Measurement; Manufacturer: Linear Technology/Analog Devices; Part Number: LTC2977IUP; Package: QFN-64 (9x9mm)
footprint QFN64 (QFN64 9mm x 9mm, 0.5mm pitch)
pins: 1 V_SENSEM6 (in), 2 V_SENSEP7 (in), 3 V_SENSEM7 (in), 4 V_OUT_EN0 (out), 5 V_OUT_EN1 (out), 6 V_OUT_EN2 (out), 7 V_OUT_EN3 (out), 8 V_OUT_EN4 (out), 9 V_OUT_EN5 (out), 10 V_OUT_EN6 (out), 11 V_OUT_EN7 (out), 12 V_IN_EN (out), 13 DNC (hiz), 14 V_IN_SNS (in), 15 V_PWR (in), 16 VDD33_OUT (io), 17 VDD33_IN (in), 18 VDD25 (io), 19 WP (in), 20 PWRGD (out), 21 SHARE_CLK (io), 22 WDI/RESETB (in), 23 FAULTB00 (io), 24 FAULTB01 (io), 25 FAULTB10 (io), 26 FAULTB11 (io), 27 SDA (io), 28 SCL (in), 29 ALERTB (out), 30 CONTROL0 (in), 31 CONTROL1 (in), 32 ASEL0 (in), 33 ASEL1 (in), 34 REFP (out), 35 REFM (out), 36 V_SENSEP0 (in), 37 V_SENSEM0 (in), 38 V_DACM0 (out), 39 V_DACP0 (out), 40 V_DACP1 (out), 41 V_DACM1 (out), 42 V_SENSEP1 (in), 43 V_SENSEM1 (in), 44 V_DACP2 (out), 45 V_DACM2 (out), 46 V_SENSEP2 (in), 47 V_SENSEM2 (in), 48 V_SENSEP3 (in), 49 V_SENSEM3 (in), 50 V_DACP3 (out), 51 V_DACM3 (out), 52 V_SENSEP4 (in), 53 V_SENSEM4 (in), 54 V_DACM4 (out), 55 V_DACP4 (out), 56 V_DACP5 (out), 57 V_DACM5 (out), 58 V_DACM6 (out), 59 V_DACP6 (out), 60 V_DACP7 (out), 61 V_DACM7 (out), 62 V_SENSEP5 (in), 63 V_SENSEM5 (in), 64 V_SENSEP6 (in), EP GND (power)
text: Power System Manager

## LTC2980IY
designator DD?
16-Channel PMBus Power System Manager; Manufacturer: Linear Technology/Analog Devices; Part Number: LTC2980IY; Package: BGA-144 (12x12mm)
footprint Y144AH (BGA, 144-Leads, Body 12,00x12,00mmx1,34mm, Pitch 1,00mm)
part A pins: A1 A_VSENSEM7 (in), A2 A_VSENSEP7 (in), A3 A_VDACP5 (out), A4 A_VSENSEM4 (in), A5 A_VSENSEM2 (in), A6 A_VSENSEP2 (in), B1 A_VOUT_EN0 (out), B2 A_VSENSEM5 (in), B3 A_VDACM5 (out), B4 A_VSENSEP4 (in), B5 A_VSENSEP3 (in), B6 A_VDACM2 (out), C1 A_VOUT_EN1 (out), C2 A_VSENSEP5 (in), C3 A_VDACM6 (out), C4 A_VDACM3 (out), C5 A_VSENSEM3 (in), C6 A_VDACP2 (out), D1 A_VOUT_EN2 (out), D2 A_VDACM7 (out), D3 A_VDACP6 (out), D4 A_VDACM4 (out), D5 A_VDACP3 (out), D6 A_VSENSEM1 (in), E1 A_VOUT_EN5 (out), E2 A_VSENSEP6 (in), E3 A_VDACP7 (out), E4 A_VDACP4 (out), E5 A_VSENSEP1 (in), E6 A_VDACP1 (out), F1 A_DNC (hiz), F2 A_VSENSEM6 (in), F3 A_GND (power), F4 A_GND (power), F5 A_VDACM1 (out), F6 A_VDACP0 (out), G1 A_VIN_SNS (in), G2 A_VPWR (in), G3 A_GND (power), G4 A_GND (power), G5 A_VSENSEP0 (in), G6 A_VDACM0 (out), H1 A_VOUT_EN4 (out), H2 A_VDD33_OUT (io), H3 A_GND (power), H4 A_GND (power), H5 A_REFM (out), H6 A_VSENSEM0 (in), J1 A_VOUT_EN3 (out), J2 A_VDD33_IN (in), J3 A_GND (power), J4 A_GND (power), J5 A_REFP (out), J6 A_ASEL1 (in), K1 A_VIN_EN (out), K2 A_VDD25 (io), K3 A_SHARE_CLK (io), K4 A_FAULTB10 (io), K5 A_ASEL0 (in), K6 A_CONTROL1 (in), L1 A_VOUT_EN7 (out), L2 A_PWRGD (out), L3 A_WDI/A_RESETB (io), L4 A_FAULTB01 (io), L5 A_ALERTB (out), L6 A_CONTROL0 (in), M1 A_VOUT_EN6 (out), M2 A_WP (in), M3 A_FAULTB00 (io), M4 A_FAULTB11 (io), M5 A_SDA (io), M6 A_SCL (in)
part B pins: A7 B_VSENSEM7 (in), A8 B_VSENSEP7 (in), A9 B_VDACP5 (out), A10 B_VSENSEM4 (in), A11 B_VSENSEM2 (in), A12 B_VSENSEP2 (in), B7 B_VOUT_EN0 (out), B8 B_VSENSEM5 (in), B9 B_VDACM5 (out), B10 B_VSENSEP4 (in), B11 B_VSENSEP3 (in), B12 B_VDACM2 (out), C7 B_VOUT_EN1 (out), C8 B_VSENSEP5 (in), C9 B_VDACM6 (out), C10 B_VDACM3 (out), C11 B_VSENSEM3 (in), C12 B_VDACP2 (out), D7 B_VOUT_EN2 (out), D8 B_VDACM7 (out), D9 B_VDACP6 (out), D10 B_VDACM4 (out), D11 B_VDACP3 (out), D12 B_VSENSEM1 (in), E7 B_VOUT_EN5 (out), E8 B_VSENSEP6 (in), E9 B_VDACP7 (out), E10 B_VDACP4 (out), E11 B_VSENSEP1 (in), E12 B_VDACP1 (out), F7 B_DNC (hiz), F8 B_VSENSEM6 (in), F9 B_GND (power), F10 B_GND (power), F11 B_VDACM1 (out), F12 B_VDACP0 (out), G7 B_VIN_SNS (in), G8 B_VPWR (in), G9 B_GND (power), G10 B_GND (power), G11 B_VSENSEP0 (in), G12 B_VDACM0 (out), H7 B_VOUT_EN4 (out), H8 B_VDD33_OUT (io), H9 B_GND (power), H10 B_GND (power), H11 B_REFM (out), H12 B_VSENSEM0 (in), J7 B_VOUT_EN3 (out), J8 B_VDD33_IN (in), J9 B_GND (power), J10 B_GND (power), J11 B_REFP (out), J12 B_ASEL1 (in), K7 B_VIN_EN (out), K8 B_VDD25 (io), K9 B_SHARE_CLK (io), K10 B_FAULTB10 (io), K11 B_ASEL0 (in), K12 B_CONTROL1 (in), L7 B_VOUT_EN7 (out), L8 B_PWRGD (out), L9 B_WDI/B_RESETB (io), L10 B_FAULTB01 (io), L11 B_ALERTB (out), L12 B_CONTROL0 (in), M7 B_VOUT_EN6 (out), M8 B_WP (in), M9 B_FAULTB00 (io), M10 B_FAULTB11 (io), M11 B_SDA (io), M12 B_SCL (in)
part A text: Power System Manager (dev. A)
part B text: Power System Manager (dev. B)

## LTC3415EUHF
designator DA?
7A, PolyPhase Synchronous Step-Down Regulator; Manufacturer: Linear Technology/Analog Devices; Part Number: LTC3415EUHF; Package: QFN-28 (4x5mm)
footprint QFN38(LINEAR) (QFN-38 package 5x7 mm from Linear Technology devices)
pins: 1 NC (hiz), 2 SGND (power), 3 PLLLPF, 4 PV_IN (power), 5 PV_IN (power), 6 SW (power), 7 SW (power), 8 SW (power), 9 SW (power), 10 MODE (in), 11 CLKIN (in), 12 PHMODE (in), 13 PGND (power), 14 PGND (power), 15 PGND (power), 16 PGND (power), 17 PGND (power), 18 PGND (power), 19 PGND (power), 20 MGN (in), 21 BSEL (in), 22 PGOOD (out), 23 SW (power), 24 SW (power), 25 SW (power), 26 SW (power), 27 PV_IN (power), 28 PV_IN (power), 29 V_FB (power), 30 TRACK (out), 31 NC (hiz), 32 I_TH (in), 33 I_THM (in), 34 SV_IN (power), 35 PV_IN (power), 36 PV_IN (power), 37 RUN (in), 38 CLKOUT (out), EP PGND (power)
text: Step-Down

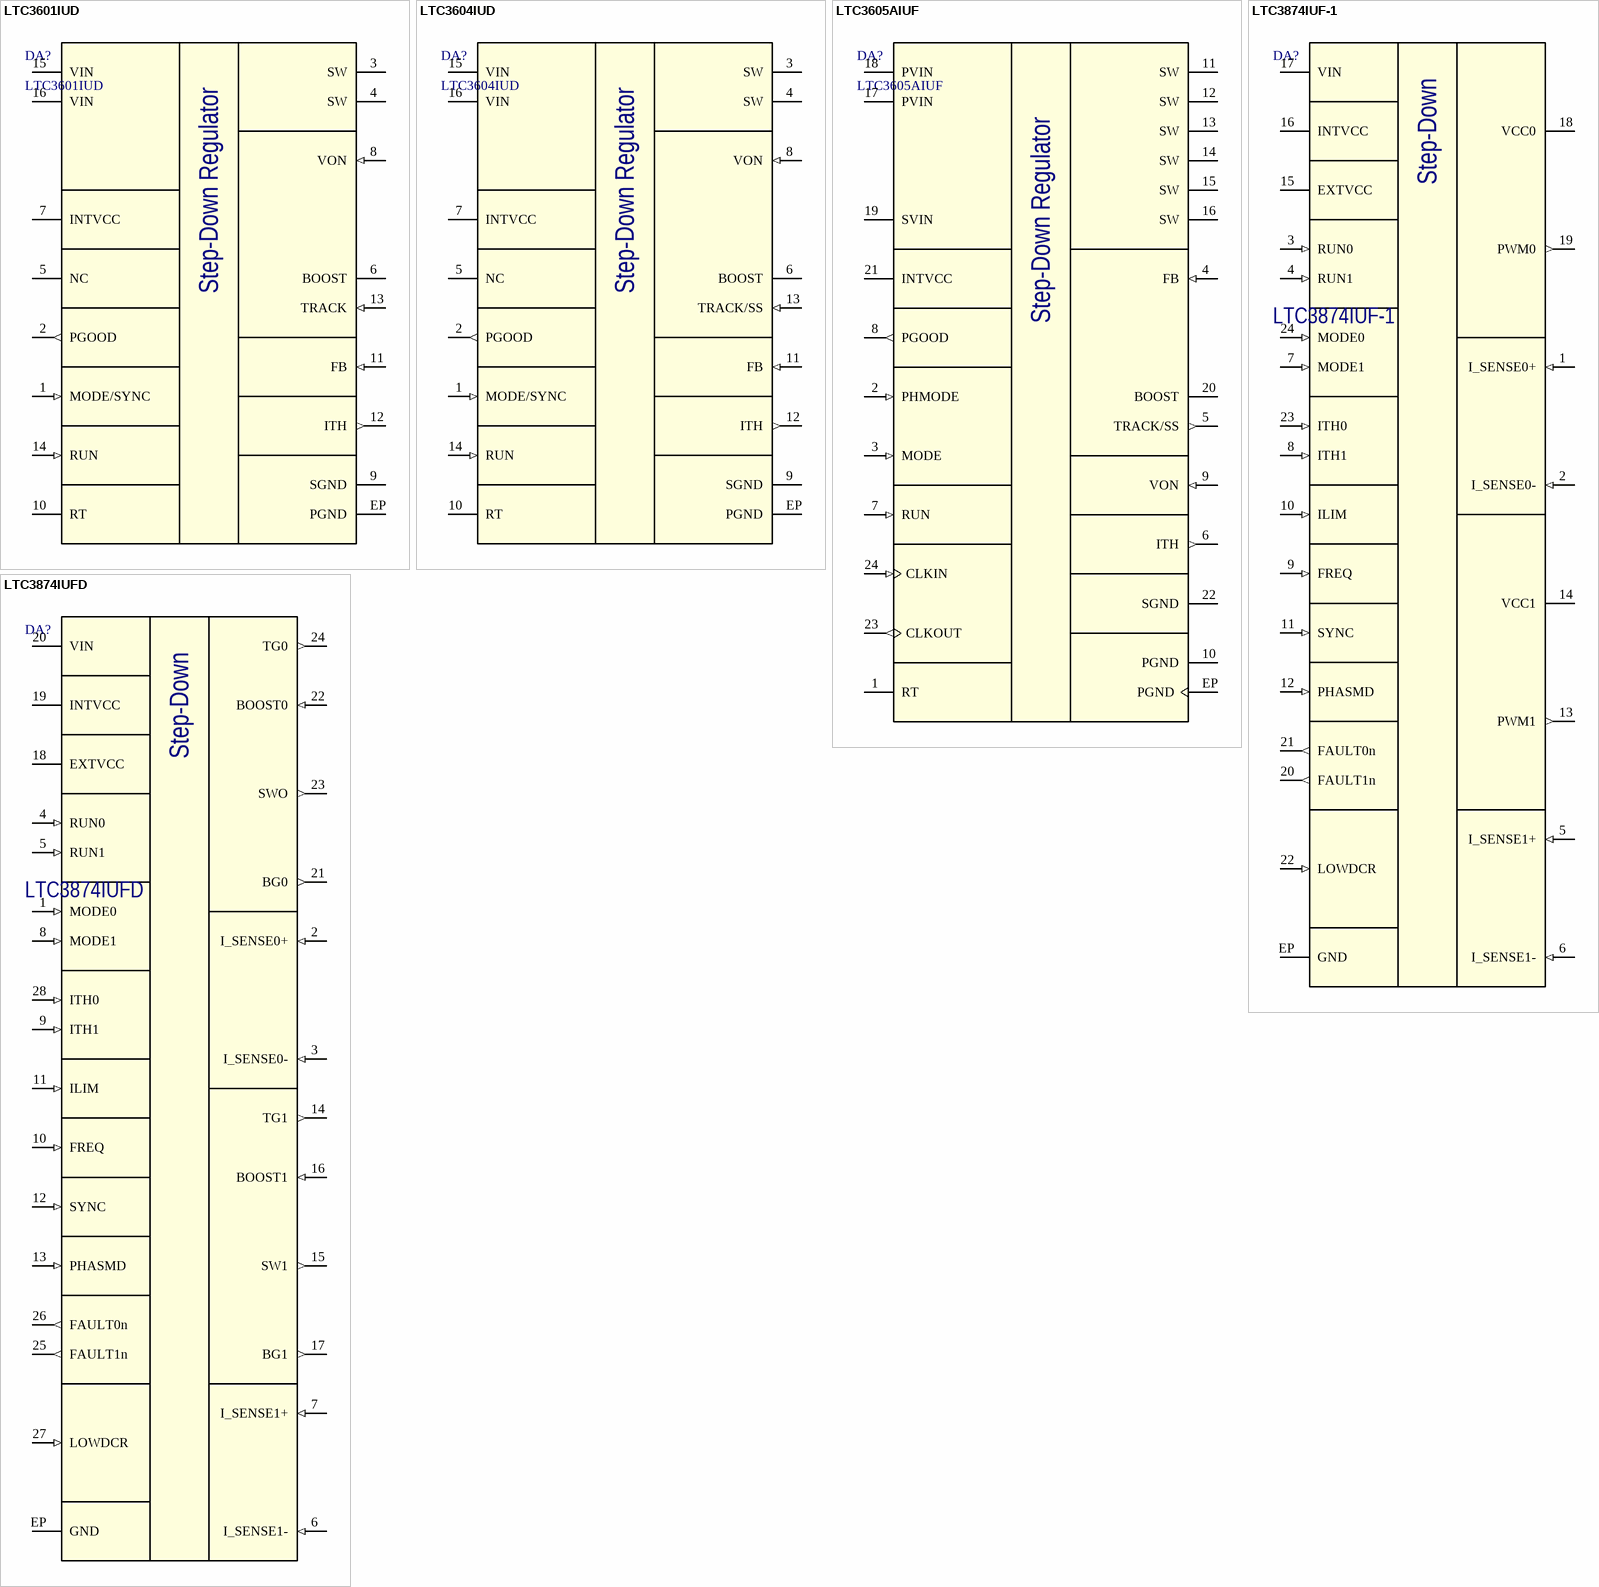
[diagram p6: symbols LTC3601IUD to LTC3874IUFD]

## LTC3601IUD
designator DA?
1.5A, 15V Monolithic Synchronous Step-Down Regulator; Manufacturer: Linear Technology/Analog Devices; Package: QFN-16; Part Number: LTC3601IUD
footprint QFN16
pins: 1 MODE/SYNC (in), 2 PGOOD (out), 3 SW (power), 4 SW (power), 5 NC (hiz), 6 BOOST, 7 INTVCC (power), 8 VON (in), 9 SGND (power), 10 RT, 11 FB (in), 12 ITH (out), 13 TRACK (in), 14 RUN (in), 15 VIN (power), 16 VIN (power), EP PGND (power)
text: Step-Down Regulator

## LTC3604IUD
designator DA?
2.5A, 15V Monolithic Synchronous Step-Down Regulator; Manufacturer: Linear Technology/Analog Devices; Package: QFN-16; Part Number: LTC3604IUD
footprint QFN16
pins: 1 MODE/SYNC (in), 2 PGOOD (out), 3 SW (power), 4 SW (power), 5 NC (hiz), 6 BOOST, 7 INTVCC (power), 8 VON (in), 9 SGND (power), 10 RT, 11 FB (in), 12 ITH (out), 13 TRACK/SS (in), 14 RUN (in), 15 VIN (power), 16 VIN (power), EP PGND (power)
text: Step-Down Regulator

## LTC3605AIUF
designator DA?
20V, 5A Synchronous Step-Down Regulator; Manufacturer: Linear Technology/Analog Devices; Package: QFN-24; Part Number: LTC3605AIUF
footprint QFN24 (QFN, 24-Leads, Body 4.00x4.00mm, Pitch 0.50mm, Thermal Pad 2.50x2.50mm, IPC Medium Density)
pins: 1 RT, 2 PHMODE (in), 3 MODE (in), 4 FB (in), 5 TRACK/SS (out), 6 ITH (out), 7 RUN (in), 8 PGOOD (out), 9 VON (in), 10 PGND (power), 11 SW (power), 12 SW (power), 13 SW (power), 14 SW (power), 15 SW (power), 16 SW (power), 17 PVIN (power), 18 PVIN (power), 19 SVIN (power), 20 BOOST, 21 INTVCC (power), 22 SGND (power), 23 CLKOUT (out), 24 CLKIN (in), EP PGND (power)
text: Step-Down Regulator

## LTC3874IUF-1
designator DA?
PolyPhase Step-Down Synchronous Slave Controller with Sub-Milliohm DCR Sensing; Manufacturer: Linear Technology/Analog Devices; Part Number: LTC3874IUF-1; Package: QFN-28 (4x5mm)
footprint QFN24 (QFN, 24-Leads, Body 4.00x4.00mm, Pitch 0.50mm, Thermal Pad 2.50x2.50mm, IPC Medium Density)
pins: 1 I_SENSE0+ (in), 2 I_SENSE0- (in), 3 RUN0 (in), 4 RUN1 (in), 5 I_SENSE1+ (in), 6 I_SENSE1- (in), 7 MODE1 (in), 8 ITH1 (in), 9 FREQ (in), 10 ILIM (in), 11 SYNC (in), 12 PHASMD (in), 13 PWM1 (out), 14 VCC1 (power), 15 EXTVCC (power), 16 INTVCC (power), 17 VIN (power), 18 VCC0 (power), 19 PWM0 (out), 20 FAULT1n (out), 21 FAULT0n (out), 22 LOWDCR (in), 23 ITH0 (in), 24 MODE0 (in), EP GND (power)
text: Step-Down

## LTC3874IUFD
designator DA?
PolyPhase Step-Down Synchronous Slave Controller with Sub-Milliohm DCR Sensing; Manufacturer: Linear Technology/Analog Devices; Part Number: LTC3874IUFD; Package: QFN-28 (4x5mm)
footprint QFN38(LINEAR) (QFN-38 package 5x7 mm from Linear Technology devices)
pins: 1 MODE0 (in), 2 I_SENSE0+ (in), 3 I_SENSE0- (in), 4 RUN0 (in), 5 RUN1 (in), 6 I_SENSE1- (in), 7 I_SENSE1+ (in), 8 MODE1 (in), 9 ITH1 (in), 10 FREQ (in), 11 ILIM (in), 12 SYNC (in), 13 PHASMD (in), 14 TG1 (out), 15 SW1 (out), 16 BOOST1 (in), 17 BG1 (out), 18 EXTVCC (power), 19 INTVCC (power), 20 VIN (power), 21 BG0 (out), 22 BOOST0 (in), 23 SWO (out), 24 TG0 (out), 25 FAULT1n (out), 26 FAULT0n (out), 27 LOWDCR (in), 28 ITH0 (in), EP GND (power)
text: Step-Down

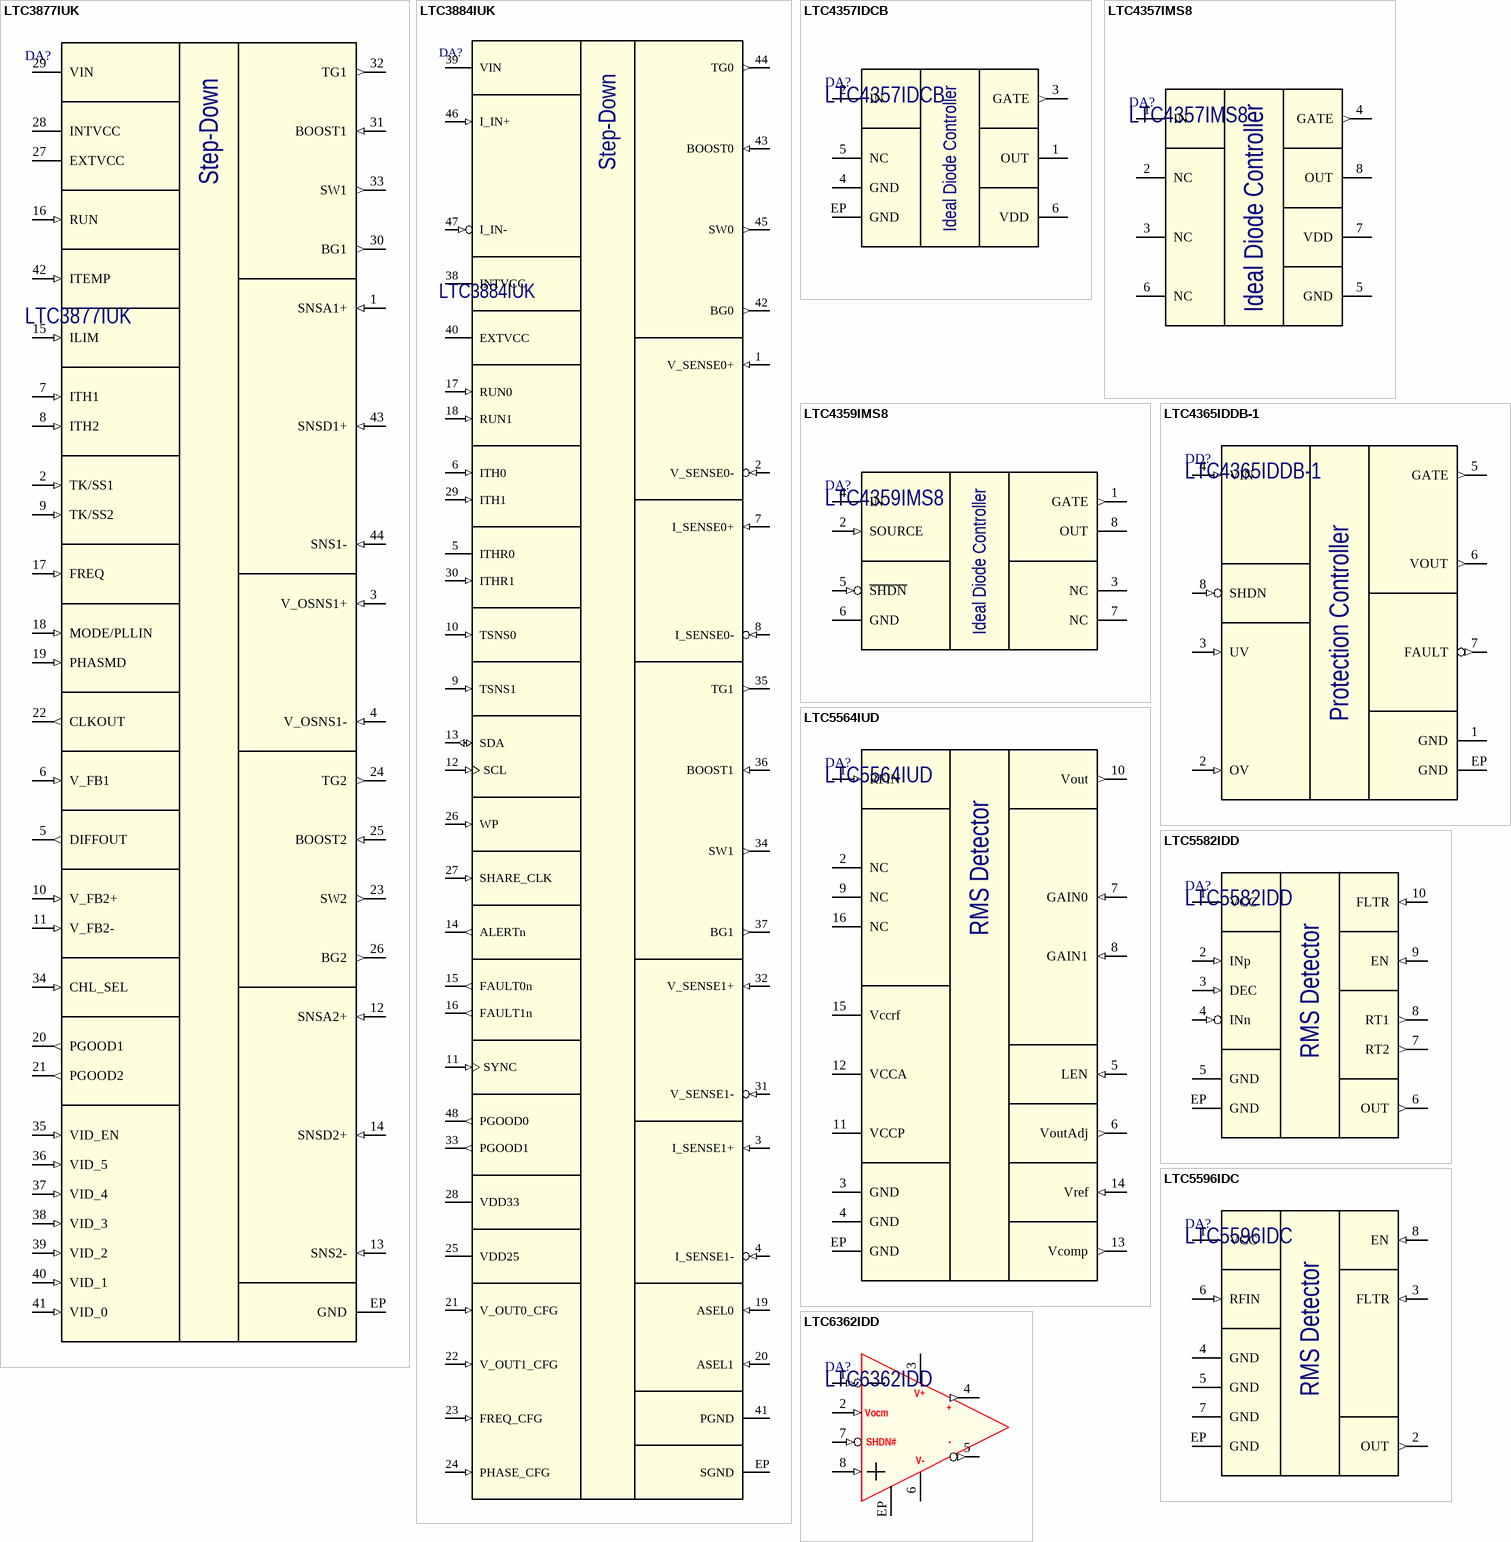
[diagram p7: symbols LTC3877IUK to LTC6362IDD]

## LTC3877IUK
designator DA?
Dual Phase Step-Down Synchronous Controller with VID Output Voltage Programming and Low Value DCR Sensing; Manufacturer: Linear Technology/Analog Devices; Part Number: LTC3877IUK; Package: QFN-44 (7x7mm)
footprint QFN-44 (QFN, 44-Leads, Body 7,00x7,00mm, Pitch 0,50mm, Thermal Pad 5,15x5,10mm, IPC Medium Density)
pins: 1 SNSA1+ (in), 2 TK/SS1 (in), 3 V_OSNS1+ (in), 4 V_OSNS1- (in), 5 DIFFOUT (out), 6 V_FB1 (in), 7 ITH1 (in), 8 ITH2 (in), 9 TK/SS2 (in), 10 V_FB2+ (in), 11 V_FB2- (in), 12 SNSA2+ (in), 13 SNS2- (in), 14 SNSD2+ (in), 15 ILIM (in), 16 RUN (in), 17 FREQ (in), 18 MODE/PLLIN (in), 19 PHASMD (in), 20 PGOOD1 (out), 21 PGOOD2 (out), 22 CLKOUT (out), 23 SW2 (out), 24 TG2 (out), 25 BOOST2 (in), 26 BG2 (out), 27 EXTVCC (power), 28 INTVCC (power), 29 VIN (power), 30 BG1 (out), 31 BOOST1 (in), 32 TG1 (out), 33 SW1 (out), 34 CHL_SEL (in), 35 VID_EN (in), 36 VID_5 (in), 37 VID_4 (in), 38 VID_3 (in), 39 VID_2 (in), 40 VID_1 (in), 41 VID_0 (in), 42 ITEMP (in), 43 SNSD1+ (in), 44 SNS1- (in), EP GND (power)
text: Step-Down

## LTC3884IUK
designator DA?
Dual Output PolyPhase Step-Down Controller with Sub-Milliohm DCR Sensing and Digital Power System Management; Manufacturer: Linear Technology/Analog Devices; Part Number: LTC3884IUK; Package: QFN-48 (7x7mm)
footprint QFN48 (QFN, 48-Leads, Body 6.95x6.95mm, Pitch 0.50mm, Thermal Pad 5.60x5.60mm, IPC Medium Density)
pins: 1 V_SENSE0+ (in), 2 V_SENSE0- (in), 3 I_SENSE1+ (in), 4 I_SENSE1- (in), 5 ITHR0, 6 ITH0 (in), 7 I_SENSE0+ (in), 8 I_SENSE0- (in), 9 TSNS1 (in), 10 TSNS0 (in), 11 SYNC (in), 12 SCL (in), 13 SDA (io), 14 ALERTn (out), 15 FAULT0n (out), 16 FAULT1n (out), 17 RUN0 (in), 18 RUN1 (in), 19 ASEL0 (in), 20 ASEL1 (in), 21 V_OUT0_CFG (in), 22 V_OUT1_CFG (in), 23 FREQ_CFG (in), 24 PHASE_CFG (in), 25 VDD25 (power), 26 WP (in), 27 SHARE_CLK (in), 28 VDD33 (power), 29 ITH1 (in), 30 ITHR1 (in), 31 V_SENSE1- (in), 32 V_SENSE1+ (in), 33 PGOOD1 (out), 34 SW1 (out), 35 TG1 (out), 36 BOOST1 (in), 37 BG1 (out), 38 INTVCC (power), 39 VIN (power), 40 EXTVCC (power), 41 PGND (power), 42 BG0 (out), 43 BOOST0 (in), 44 TG0 (out), 45 SW0 (out), 46 I_IN+ (in), 47 I_IN- (in), 48 PGOOD0 (out), EP SGND (power)
text: Step-Down

## LTC4357IDCB
designator DA?
Positive High Voltage Ideal Diode Controller; Manufacturer: Linear Technology/Analog Devices; Package: DFN-6; Part Number: LTC4357IDCB
footprint DFN-6
pins: 1 OUT (power), 2 IN (power), 3 GATE (out), 4 GND (power), 5 NC (hiz), 6 VDD (power), EP GND (power)
text: Ideal Diode Controller

## LTC4357IMS8
designator DA?
Positive High Voltage Ideal Diode Controller; Manufacturer: Linear Technology/Analog Devices; Package: MSOP-8; Part Number: LTC4357IMS8
footprint MSOP-8 (TSOP, 8-Leads, Body 3.00x3.00mm, Pitch 0.65mm, IPC Medium Density)
pins: 1 IN (power), 2 NC (hiz), 3 NC (hiz), 4 GATE (out), 5 GND (power), 6 NC (hiz), 7 VDD (power), 8 OUT (power)
text: Ideal Diode Controller

## LTC4359IMS8
designator DA?
Positive High Voltage Ideal Diode Controller; Manufacturer: Linear Technology/Analog Devices; Package: MSOP-8; Part Number: LTC4359IMS8
footprint MSOP-8 (TSOP, 8-Leads, Body 3.00x3.00mm, Pitch 0.65mm, IPC Medium Density)
pins: 1 GATE (out), 2 SOURCE (in), 3 NC (hiz), 4 IN (power), 5 ~{SHDN} (in), 6 GND (power), 7 NC (hiz), 8 OUT (power)
text: Ideal Diode Controller

## LTC4365IDDB-1
designator DD?
Overvoltage, Undervoltage and Reverse Supply Protection Controller; Manufacturer: Linear Technology/Analog Devices; Package: DFN-8 (3mm x 2mm); Part Number: LTC4365IDDB-1
footprint DFN-8(LINEAR) (DFN-8 package 3x2mm with 0.5 mm pitch)
pins: 1 GND (power), 2 OV (in), 3 UV (in), 4 VIN (in), 5 GATE (out), 6 VOUT (out), 7 FAULT (out), 8 SHDN (in), EP GND (power)
text: Protection Controller

## LTC5564IUD
designator DA?
UltraFast™ 7ns Response Time 15GHz RF Power Detector with Comparator; Manufacturer: Linear Technology/Analog Devices; Package: QFN-16; Part Number: LTC5564IUD
footprint QFN16_LTC5564 (QFN-16, 3mm x 3mm, pitch 0.5mm. Reference LTC DWG # 05-08-1691 Rev Ø)
pins: 1 RFIN (in), 2 NC (hiz), 3 GND (power), 4 GND (power), 5 LEN (in), 6 VoutAdj (out), 7 GAIN0 (in), 8 GAIN1 (in), 9 NC (hiz), 10 Vout (out), 11 VCCP (power), 12 VCCA (power), 13 Vcomp (out), 14 Vref (in), 15 Vccrf (power), 16 NC (hiz), EP GND (power)
text: RMS Detector

## LTC5582IDD
designator DA?
RMS Power Detector; Manufacturer: Linear Technology/Analog Devices; Package: DFN10; Part Number: LTC5582IDD
footprint DFN-10 (DFN-10 package with 0.5mm pitch)
pins: 1 VCC (power), 2 INp (in), 3 DEC (in), 4 INn (in), 5 GND (power), 6 OUT (out), 7 RT2 (out), 8 RT1 (out), 9 EN (in), 10 FLTR (in), EP GND (power)
text: RMS Detector

## LTC5596IDC
designator DA?
100MHz to 40GHz Linear-in-dB RMS Power Detector with 35dB Dynamic Range; Manufacturer: Linear Technology/Analog Devices; Package: DFN8; Part Number: LTC5596IDC
footprint DFN-8(2x2mm)
pins: 1 VCC (power), 2 OUT (out), 3 FLTR (in), 4 GND (power), 5 GND (power), 6 RFIN (in), 7 GND (power), 8 EN (in), EP GND (power)
text: RMS Detector

## LTC6362IDD
designator DA?
Precision, Low Power Rail-to-Rail Input/Output Differential Op Amp/SAR ADC Driver; Manufacturer: Linear Technology/Analog Devices; Package: DFN-8; Part Number: LTC6362IDD
footprint DFN-8(3x3mm)
pins: 1 IN- (in), 2 VOCM (in), 3 V+ (power), 4 OUT+ (out), 5 OUT- (out), 6 V- (power), 7 SHDN (in), 8 IN+ (in), EP GND (power)
text: +; Vocm; SHDN#; -

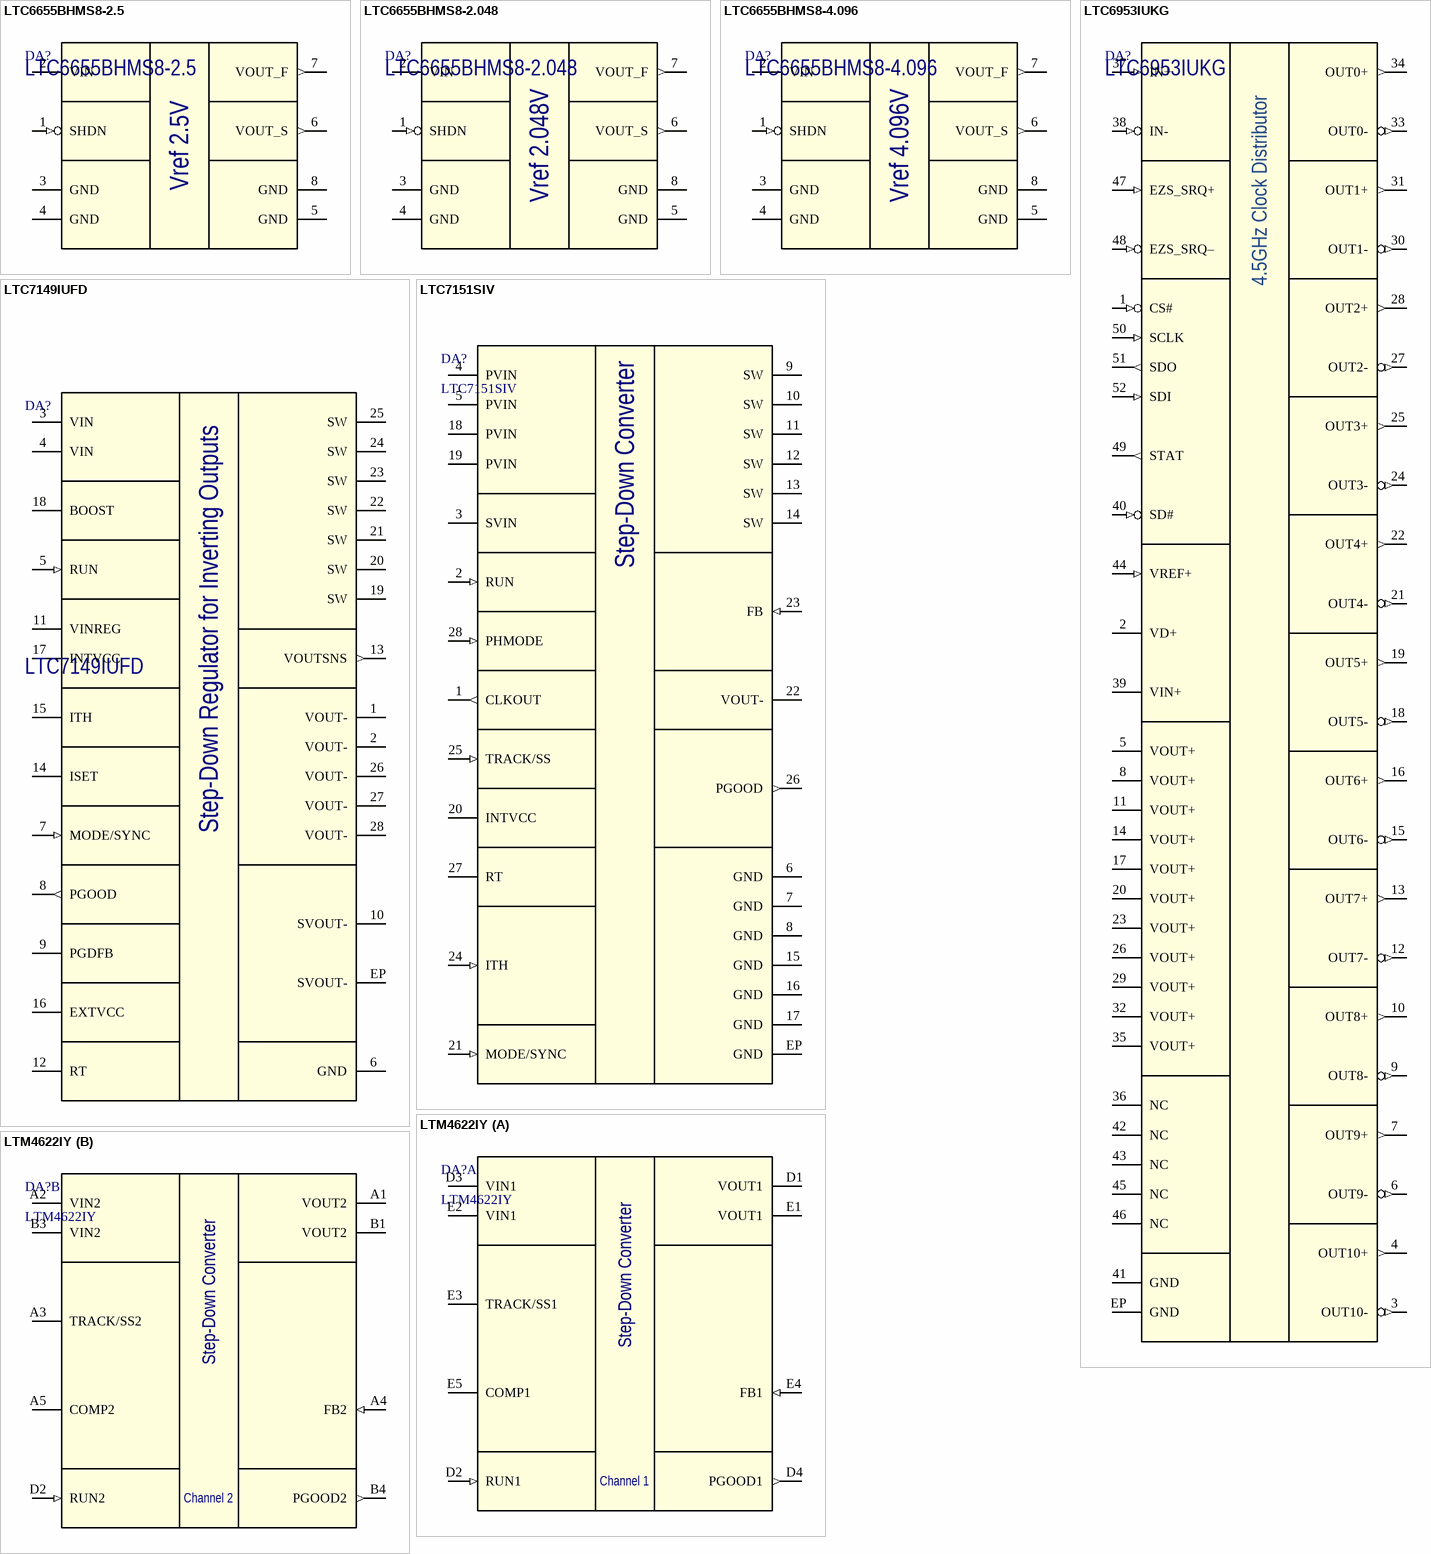
[diagram p8: symbols LTC6655BHMS8-2.5 to LTM4622IY]

## LTC6655BHMS8-2.5
designator DA?
Low Drift Precision References; Manufacturer: Linear Technology/Analog Devices; Drift: 2ppm/°C; Accuracy: ±0.025%; Package: MSOP-8; Part Number: LTC6655BHMS8-2.5
footprint MSOP-8 (TSOP, 8-Leads, Body 3.00x3.00mm, Pitch 0.65mm, IPC Medium Density)
pins: 1 SHDN (in), 2 VIN (power), 3 GND (power), 4 GND (power), 5 GND (power), 6 VOUT_S (out), 7 VOUT_F (out), 8 GND (power)
text: Vref 2.5V

## LTC6655BHMS8-2.048
designator DA?
Low Drift Precision References; Manufacturer: Linear Technology/Analog Devices; Drift: 2ppm/°C; Accuracy: ±0.025%; Package: MSOP-8; Part Number: LTC6655BHMS8-2.048
footprint MSOP-8 (TSOP, 8-Leads, Body 3.00x3.00mm, Pitch 0.65mm, IPC Medium Density)
pins: 1 SHDN (in), 2 VIN (power), 3 GND (power), 4 GND (power), 5 GND (power), 6 VOUT_S (out), 7 VOUT_F (out), 8 GND (power)
text: Vref 2.048V

## LTC6655BHMS8-4.096
designator DA?
Low Drift Precision References; Manufacturer: Linear Technology/Analog Devices; Drift: 2ppm/°C; Accuracy: ±0.025%; Package: MSOP-8; Part Number: LTC6655BHMS8-4.096
footprint MSOP-8 (TSOP, 8-Leads, Body 3.00x3.00mm, Pitch 0.65mm, IPC Medium Density)
pins: 1 SHDN (in), 2 VIN (power), 3 GND (power), 4 GND (power), 5 GND (power), 6 VOUT_S (out), 7 VOUT_F (out), 8 GND (power)
text: Vref 4.096V

## LTC6953IUKG
designator DA?
Ultralow Jitter, 4.5GHz Clock Distributor with 11 Outputs and JESD204B/JESD204C Support; Manufacturer: Linear Technology/Analog Devices; Package: QFN-52; Part Number: LTC6953IUKG
footprint QFN52_LTC6953
pins: 1 CS# (in), 2 VD+ (power), 3 OUT10- (out), 4 OUT10+ (out), 5 VOUT+ (power), 6 OUT9- (out), 7 OUT9+ (out), 8 VOUT+ (power), 9 OUT8- (out), 10 OUT8+ (out), 11 VOUT+ (power), 12 OUT7- (out), 13 OUT7+ (out), 14 VOUT+ (power), 15 OUT6- (out), 16 OUT6+ (out), 17 VOUT+ (power), 18 OUT5- (out), 19 OUT5+ (out), 20 VOUT+ (power), 21 OUT4- (out), 22 OUT4+ (out), 23 VOUT+ (power), 24 OUT3- (out), 25 OUT3+ (out), 26 VOUT+ (power), 27 OUT2- (out), 28 OUT2+ (out), 29 VOUT+ (power), 30 OUT1- (out), 31 OUT1+ (out), 32 VOUT+ (power), 33 OUT0- (out), 34 OUT0+ (out), 35 VOUT+ (power), 36 NC (hiz), 37 IN+ (in), 38 IN- (in), 39 VIN+ (power), 40 SD# (in), 41 GND (power), 42 NC (hiz), 43 NC (hiz), 44 VREF+ (in), 45 NC (hiz), 46 NC (hiz), 47 EZS_SRQ+ (in), 48 EZS_SRQ– (in), 49 STAT (out), 50 SCLK (in), 51 SDO (out), 52 SDI (in), EP GND (power)
text: 4.5GHz Clock Distributor

## LTC7149IUFD
designator DA?
60V, 4A Synchronous Step-Down Regulator for Inverting Outputs; Manufacturer: Linear Technology/Analog Devices; Part Number: LTC7149IUFD; Package: QFN-28 (4x5mm)
footprint QFN28(LINEAR) (QFN-28 package 4x5 mm from Linear Technology devices)
pins: 1 VOUT- (power), 2 VOUT- (power), 3 VIN (power), 4 VIN (power), 5 RUN (in), 6 GND (power), 7 MODE/SYNC (in), 8 PGOOD (out), 9 PGDFB (power), 10 SVOUT- (power), 11 VINREG (power), 12 RT, 13 VOUTSNS (out), 14 ISET (power), 15 ITH (power), 16 EXTVCC (power), 17 INTVCC (power), 18 BOOST, 19 SW (power), 20 SW (power), 21 SW (power), 22 SW (power), 23 SW (power), 24 SW (power), 25 SW (power), 26 VOUT- (power), 27 VOUT- (power), 28 VOUT- (power), EP SVOUT- (power)
text: Step-Down Regulator for Inverting Outputs

## LTC7151SIV
designator DA?
20V, 15A Synchronous Step-Down Silent Switcher 2 Regulator; Manufacturer: Linear Technology/Analog Devices; Package: LQFN28; Part Number: LTC7151SIV
footprint LQFN28 (QFN-28 package 4x5 mm from Linear Technology devices)
pins: 1 CLKOUT (out), 2 RUN (in), 3 SVIN (power), 4 PVIN (power), 5 PVIN (power), 6 GND (power), 7 GND (power), 8 GND (power), 9 SW (power), 10 SW (power), 11 SW (power), 12 SW (power), 13 SW (power), 14 SW (power), 15 GND (power), 16 GND (power), 17 GND (power), 18 PVIN (power), 19 PVIN (power), 20 INTVCC (power), 21 MODE/SYNC (in), 22 VOUT- (power), 23 FB (in), 24 ITH (in), 25 TRACK/SS (in), 26 PGOOD (out), 27 RT, 28 PHMODE (in), EP GND (power)
text: Step-Down Converter

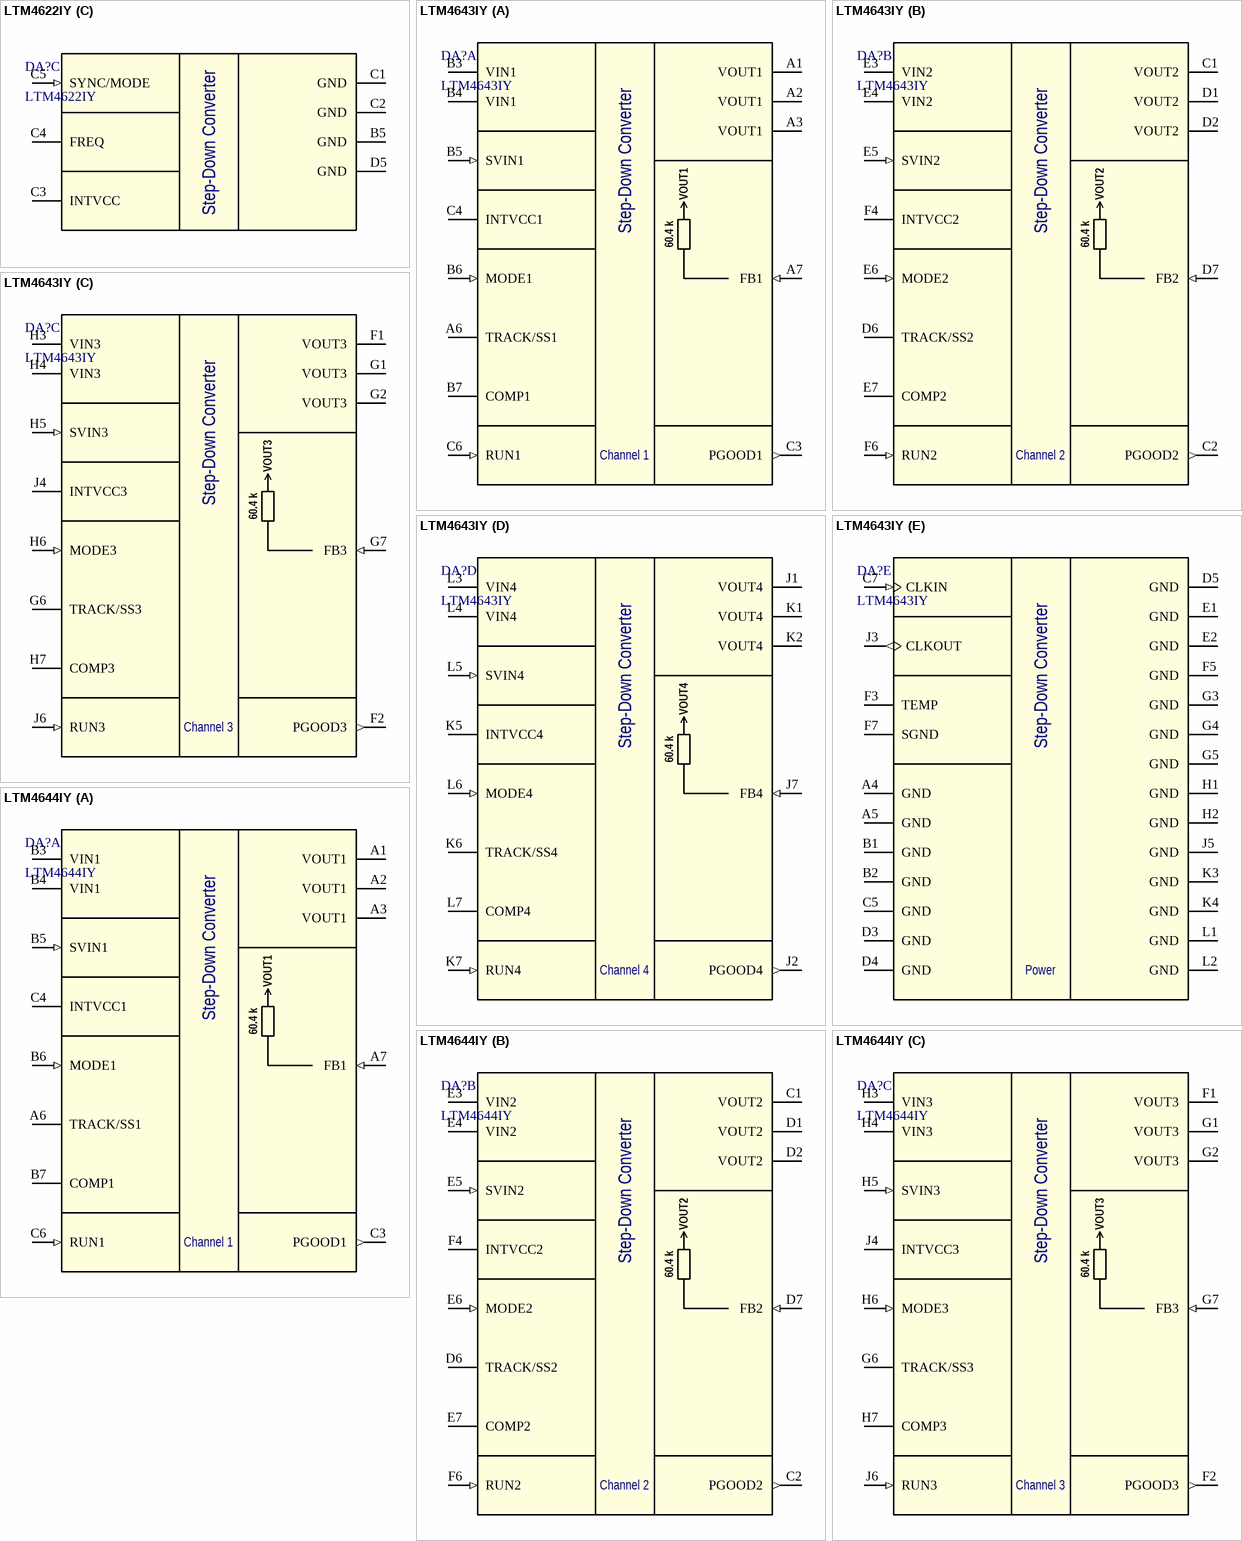
[diagram p9: symbols LTM4622IY to LTM4644IY]

## LTM4622IY
designator DA?
Dual Ultrathin 2.5A or Single 5A Step-Down DC/DC µModule Regulator; Manufacturer: Linear Technology/Analog Devices; Package: BGA-25; Part Number: LTM4622IY
footprint BGA25_LTM4622
part A pins: D1 VOUT1 (power), D2 RUN1 (in), D3 VIN1 (power), D4 PGOOD1 (out), E1 VOUT1 (power), E2 VIN1 (power), E3 TRACK/SS1, E4 FB1 (in), E5 COMP1
part B pins: A1 VOUT2 (power), A2 VIN2 (power), A3 TRACK/SS2, A4 FB2 (in), A5 COMP2, B1 VOUT2 (power), B3 VIN2 (power), B4 PGOOD2 (out), D2 RUN2 (in)
part C pins: B5 GND (power), C1 GND (power), C2 GND (power), C3 INTVCC (power), C4 FREQ, C5 SYNC/MODE (in), D5 GND (power)
part A text: Step-Down Converter; Channel 1
part B text: Step-Down Converter; Channel 2
part C text: Step-Down Converter

## LTM4643IY
designator DA?
Ultrathin Quad µModule Regulator with Configurable 3A Output Array; Manufacturer: Linear Technology/Analog Devices; Package: BGA-77; Part Number: LTM4643IY
footprint BGA77_LTM4643
part A pins: A1 VOUT1 (power), A2 VOUT1 (power), A3 VOUT1 (power), A6 TRACK/SS1, A7 FB1 (in), B3 VIN1 (power), B4 VIN1 (power), B5 SVIN1 (in), B6 MODE1 (in), B7 COMP1, C3 PGOOD1 (out), C4 INTVCC1 (power), C6 RUN1 (in)
part B pins: C1 VOUT2 (power), C2 PGOOD2 (out), D1 VOUT2 (power), D2 VOUT2 (power), D6 TRACK/SS2, D7 FB2 (in), E3 VIN2 (power), E4 VIN2 (power), E5 SVIN2 (in), E6 MODE2 (in), E7 COMP2, F4 INTVCC2 (power), F6 RUN2 (in)
part C pins: F1 VOUT3 (power), F2 PGOOD3 (out), G1 VOUT3 (power), G2 VOUT3 (power), G6 TRACK/SS3, G7 FB3 (in), H3 VIN3 (power), H4 VIN3 (power), H5 SVIN3 (in), H6 MODE3 (in), H7 COMP3, J4 INTVCC3 (power), J6 RUN3 (in)
part D pins: J1 VOUT4 (power), J2 PGOOD4 (out), J7 FB4 (in), K1 VOUT4 (power), K2 VOUT4 (power), K5 INTVCC4 (power), K6 TRACK/SS4, K7 RUN4 (in), L3 VIN4 (power), L4 VIN4 (power), L5 SVIN4 (in), L6 MODE4 (in), L7 COMP4
part E pins: A4 GND (power), A5 GND (power), B1 GND (power), B2 GND (power), C5 GND (power), C7 CLKIN (in), D3 GND (power), D4 GND (power), D5 GND (power), E1 GND (power), E2 GND (power), F3 TEMP, F5 GND (power), F7 SGND (power), G3 GND (power), G4 GND (power), G5 GND (power), H1 GND (power), H2 GND (power), J3 CLKOUT (out), J5 GND (power), K3 GND (power), K4 GND (power), L1 GND (power), L2 GND (power)
part A text: Step-Down Converter; 60.4 k; Channel 1
part B text: Step-Down Converter; 60.4 k; Channel 2
part C text: Step-Down Converter; 60.4 k; Channel 3
part D text: Step-Down Converter; 60.4 k; Channel 4
part E text: Step-Down Converter; Power

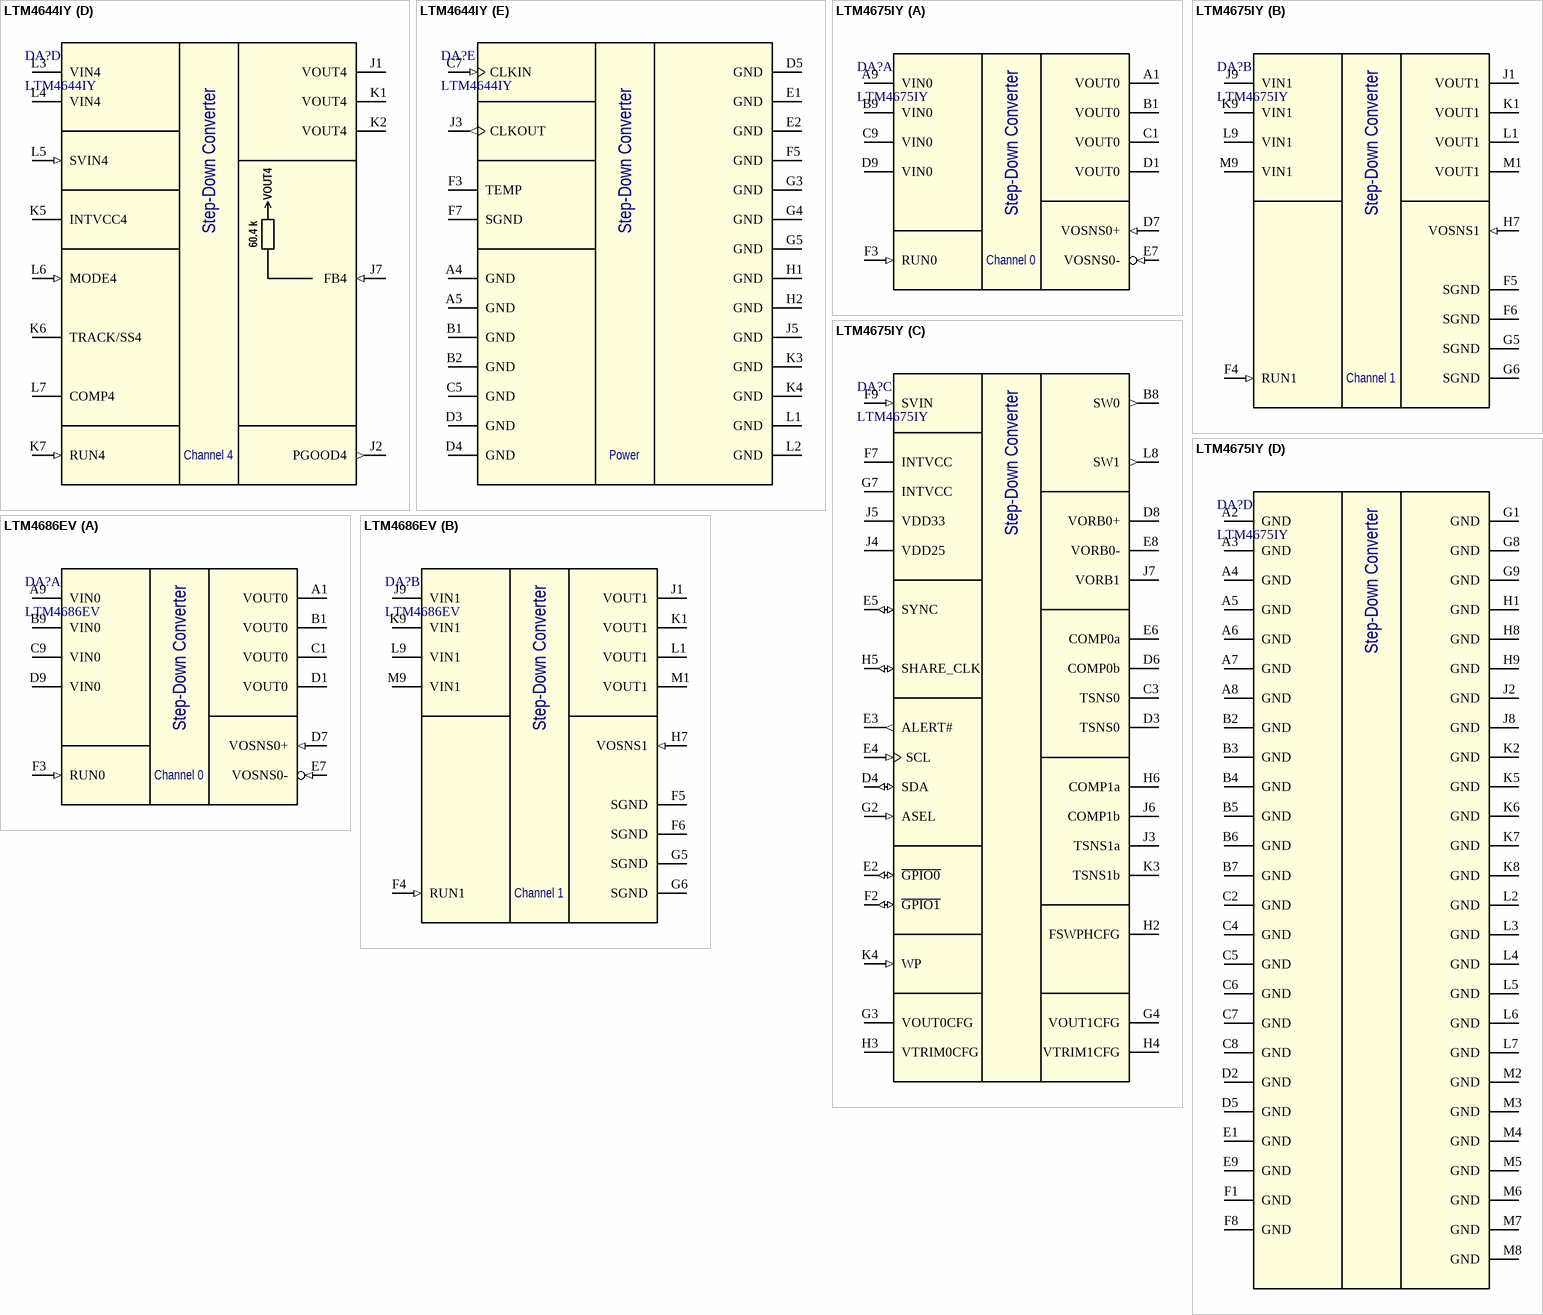
[diagram p10: symbols LTM4644IY to LTM4686EV]

## LTM4644IY
designator DA?
Quad DC/DC µModule Regulator with Configurable 4A Output Array; Manufacturer: Linear Technology/Analog Devices; Package: BGA-77; Part Number: LTM4644IY
footprint BGA77_LTM4644
part A pins: A1 VOUT1 (power), A2 VOUT1 (power), A3 VOUT1 (power), A6 TRACK/SS1, A7 FB1 (in), B3 VIN1 (power), B4 VIN1 (power), B5 SVIN1 (in), B6 MODE1 (in), B7 COMP1, C3 PGOOD1 (out), C4 INTVCC1 (power), C6 RUN1 (in)
part B pins: C1 VOUT2 (power), C2 PGOOD2 (out), D1 VOUT2 (power), D2 VOUT2 (power), D6 TRACK/SS2, D7 FB2 (in), E3 VIN2 (power), E4 VIN2 (power), E5 SVIN2 (in), E6 MODE2 (in), E7 COMP2, F4 INTVCC2 (power), F6 RUN2 (in)
part C pins: F1 VOUT3 (power), F2 PGOOD3 (out), G1 VOUT3 (power), G2 VOUT3 (power), G6 TRACK/SS3, G7 FB3 (in), H3 VIN3 (power), H4 VIN3 (power), H5 SVIN3 (in), H6 MODE3 (in), H7 COMP3, J4 INTVCC3 (power), J6 RUN3 (in)
part D pins: J1 VOUT4 (power), J2 PGOOD4 (out), J7 FB4 (in), K1 VOUT4 (power), K2 VOUT4 (power), K5 INTVCC4 (power), K6 TRACK/SS4, K7 RUN4 (in), L3 VIN4 (power), L4 VIN4 (power), L5 SVIN4 (in), L6 MODE4 (in), L7 COMP4
part E pins: A4 GND (power), A5 GND (power), B1 GND (power), B2 GND (power), C5 GND (power), C7 CLKIN (in), D3 GND (power), D4 GND (power), D5 GND (power), E1 GND (power), E2 GND (power), F3 TEMP, F5 GND (power), F7 SGND (power), G3 GND (power), G4 GND (power), G5 GND (power), H1 GND (power), H2 GND (power), J3 CLKOUT (out), J5 GND (power), K3 GND (power), K4 GND (power), L1 GND (power), L2 GND (power)
part A text: Step-Down Converter; 60.4 k; Channel 1
part B text: Step-Down Converter; 60.4 k; Channel 2
part C text: Step-Down Converter; 60.4 k; Channel 3
part D text: Step-Down Converter; 60.4 k; Channel 4
part E text: Step-Down Converter; Power

## LTM4675IY
designator DA?
Dual 9A or Single 18A µModule Regulator with Digital Power System Management; Manufacturer: Linear Technology/Analog Devices; Package: BGA-108; Part Number: LTM4675IY
footprint BGA108_LTM4675
part A pins: A1 VOUT0 (power), A9 VIN0 (power), B1 VOUT0 (power), B9 VIN0 (power), C1 VOUT0 (power), C9 VIN0 (power), D1 VOUT0 (power), D7 VOSNS0+ (in), D9 VIN0 (power), E7 VOSNS0- (in), F3 RUN0 (in)
part B pins: F4 RUN1 (in), F5 SGND, F6 SGND, G5 SGND, G6 SGND, H7 VOSNS1 (in), J1 VOUT1 (power), J9 VIN1 (power), K1 VOUT1 (power), K9 VIN1 (power), L1 VOUT1 (power), L9 VIN1 (power), M1 VOUT1 (power), M9 VIN1 (power)
part C pins: B8 SW0 (out), C3 TSNS0, D3 TSNS0, D4 SDA (io), D6 COMP0b, D8 VORB0+, E2 ~{GPIO0} (io), E3 ALERT# (out), E4 SCL (in), E5 SYNC (io), E6 COMP0a, E8 VORB0-, F2 ~{GPIO1} (io), F7 INTVCC (power), F9 SVIN (in), G2 ASEL (in), G3 VOUT0CFG, G4 VOUT1CFG, G7 INTVCC (power), H2 FSWPHCFG, H3 VTRIM0CFG, H4 VTRIM1CFG, H5 SHARE_CLK (io), H6 COMP1a, J3 TSNS1a, J4 VDD25 (power), J5 VDD33 (power), J6 COMP1b, J7 VORB1, K3 TSNS1b, K4 WP (in), L8 SW1 (out)
part D pins: A2 GND (power), A3 GND (power), A4 GND (power), A5 GND (power), A6 GND (power), A7 GND (power), A8 GND (power), B2 GND (power), B3 GND (power), B4 GND (power), B5 GND (power), B6 GND (power), B7 GND (power), C2 GND (power), C4 GND (power), C5 GND (power), C6 GND (power), C7 GND (power), C8 GND (power), D2 GND (power), D5 GND (power), E1 GND (power), E9 GND (power), F1 GND (power), F8 GND (power), G1 GND (power), G8 GND (power), G9 GND (power), H1 GND (power), H8 GND (power), H9 GND (power), J2 GND (power), J8 GND (power), K2 GND (power), K5 GND (power), K6 GND (power), K7 GND (power), K8 GND (power), L2 GND (power), L3 GND (power), L4 GND (power), L5 GND (power), L6 GND (power), L7 GND (power), M2 GND (power), M3 GND (power), M4 GND (power), M5 GND (power), M6 GND (power), M7 GND (power), M8 GND (power)
part A text: Step-Down Converter; Channel 0
part B text: Step-Down Converter; Channel 1
part C text: Step-Down Converter
part D text: Step-Down Converter

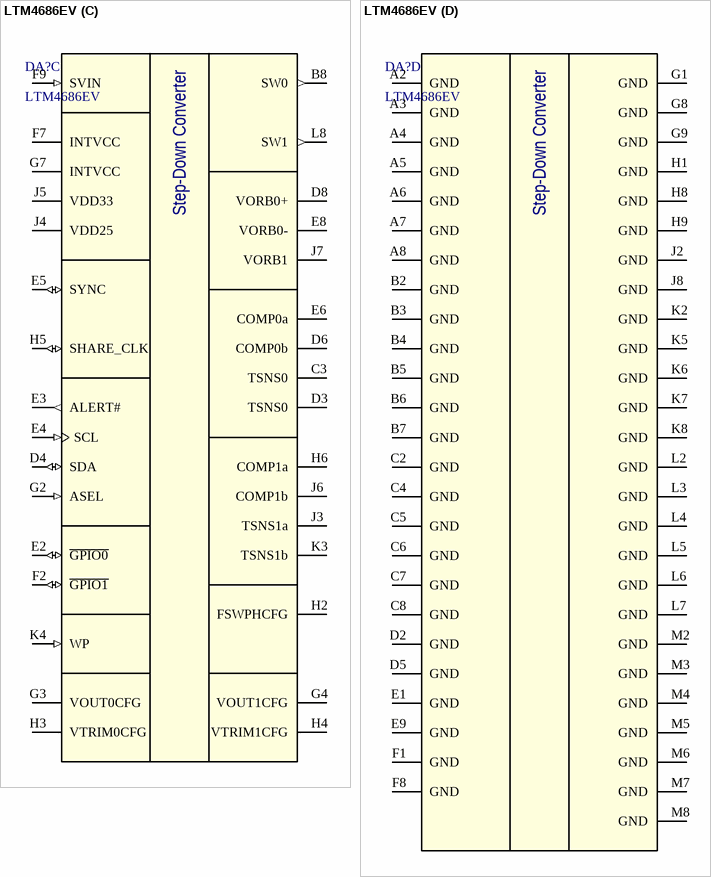
[diagram p11: symbol LTM4686EV]

## LTM4686EV
designator DA?
Ultrathin Dual 10A or Single 20A µModule Regulator with Digital Power System Management; Manufacturer: Linear Technology/Analog Devices; Package: BGA-108; Part Number: LTM4686EV
footprint BGA108_LTM4686
part A pins: A1 VOUT0 (power), A9 VIN0 (power), B1 VOUT0 (power), B9 VIN0 (power), C1 VOUT0 (power), C9 VIN0 (power), D1 VOUT0 (power), D7 VOSNS0+ (in), D9 VIN0 (power), E7 VOSNS0- (in), F3 RUN0 (in)
part B pins: F4 RUN1 (in), F5 SGND, F6 SGND, G5 SGND, G6 SGND, H7 VOSNS1 (in), J1 VOUT1 (power), J9 VIN1 (power), K1 VOUT1 (power), K9 VIN1 (power), L1 VOUT1 (power), L9 VIN1 (power), M1 VOUT1 (power), M9 VIN1 (power)
part C pins: B8 SW0 (out), C3 TSNS0, D3 TSNS0, D4 SDA (io), D6 COMP0b, D8 VORB0+, E2 ~{GPIO0} (io), E3 ALERT# (out), E4 SCL (in), E5 SYNC (io), E6 COMP0a, E8 VORB0-, F2 ~{GPIO1} (io), F7 INTVCC (power), F9 SVIN (in), G2 ASEL (in), G3 VOUT0CFG, G4 VOUT1CFG, G7 INTVCC (power), H2 FSWPHCFG, H3 VTRIM0CFG, H4 VTRIM1CFG, H5 SHARE_CLK (io), H6 COMP1a, J3 TSNS1a, J4 VDD25 (power), J5 VDD33 (power), J6 COMP1b, J7 VORB1, K3 TSNS1b, K4 WP (in), L8 SW1 (out)
part D pins: A2 GND (power), A3 GND (power), A4 GND (power), A5 GND (power), A6 GND (power), A7 GND (power), A8 GND (power), B2 GND (power), B3 GND (power), B4 GND (power), B5 GND (power), B6 GND (power), B7 GND (power), C2 GND (power), C4 GND (power), C5 GND (power), C6 GND (power), C7 GND (power), C8 GND (power), D2 GND (power), D5 GND (power), E1 GND (power), E9 GND (power), F1 GND (power), F8 GND (power), G1 GND (power), G8 GND (power), G9 GND (power), H1 GND (power), H8 GND (power), H9 GND (power), J2 GND (power), J8 GND (power), K2 GND (power), K5 GND (power), K6 GND (power), K7 GND (power), K8 GND (power), L2 GND (power), L3 GND (power), L4 GND (power), L5 GND (power), L6 GND (power), L7 GND (power), M2 GND (power), M3 GND (power), M4 GND (power), M5 GND (power), M6 GND (power), M7 GND (power), M8 GND (power)
part A text: Step-Down Converter; Channel 0
part B text: Step-Down Converter; Channel 1
part C text: Step-Down Converter
part D text: Step-Down Converter